# Altium integrated library V2COM_2018.IntLib: 302 symbols (part 1 of 2)
Pins are listed as number, name and electrical type; pins without a type are passive.

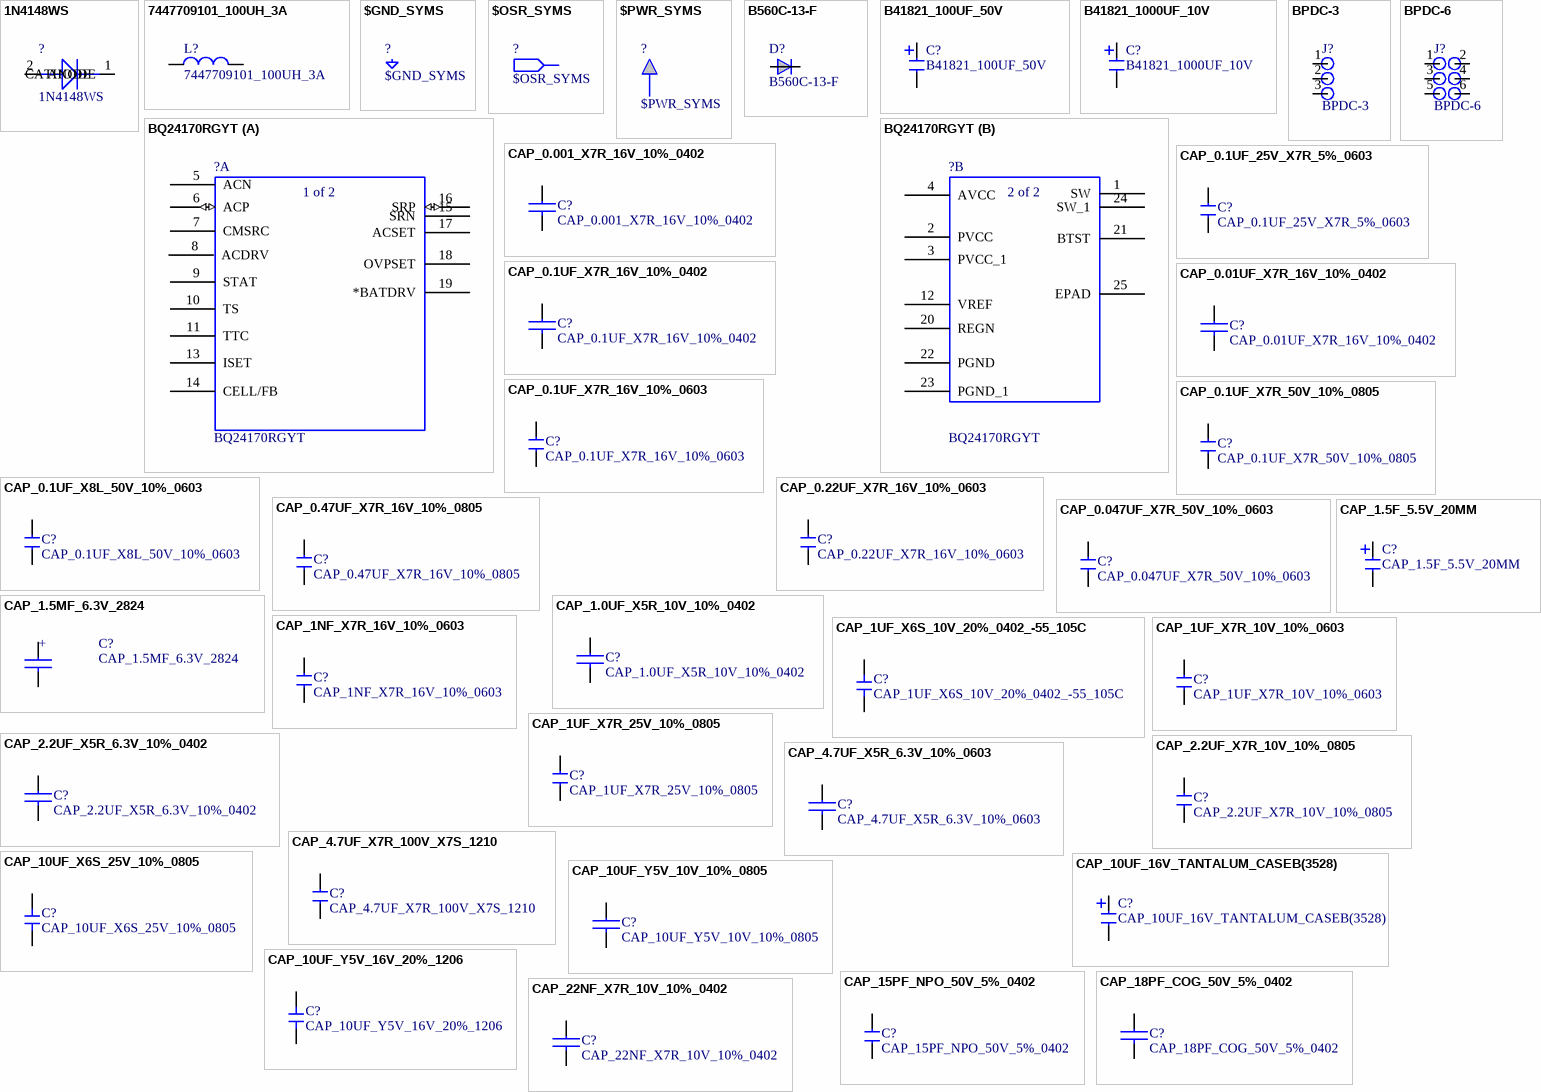
[diagram p0: symbols 1N4148WS to CAP_22NF_X7R_10V_10%_0402]

## 1N4148WS
designator ?
PKG: SOD-323 Flat Lead; MAN: Fairchild; Geometry.Height: 1.35 mm; DESC: Small Signal Diodes; VALOR: 1N4148WS; PN: 1N4148WS
footprint 1N4148WS
pins: 1 CATHODE, 2 ANODE

## 7447709101_100UH_3A
designator L?
DESC: Shielded Power Inductor; VALOR: 100uH, 3A; PKG: SMD; MAN: WURTH Eletronik; Geometry.Height: 10.0mm; PN: 7447709101
footprint 7447709101
pins: 1, 2

## $GND_SYMS
designator ?
footprint PCBNULL

## $OSR_SYMS
designator ?
footprint PCBNULL
5 alternate drawings of the same symbol

## $PWR_SYMS
designator ?
footprint PCBNULL

## B560C-13-F
designator D?
DESC: Schottky Rectifier 5.0 A, 60 V; VALOR: 5A 60V; PKG: DO214-AB; PN: B560C-13-F, STPS5L60S, CDBC560-G; MAN: Diodes Inc, STMicro, Comchip, Micro Comercial; Geometry.Height: 2.65mm
footprint DO-214AB(SMC)
pins: 1, 2

## B41821_100UF_50V
designator C?
DESC: CAP. ELET. RADIAL 100uF 50V; VALOR: 100uF,50V; PKG: PTH; PN: B41821A6107M000; MAN: EPCOS; Geometry.Height: 11.5mm
footprint B41821A6107M000
pins: 1, 2

## B41821_1000UF_10V
designator C?
DESC: CAP. ELET. RADIAL 1000uF 10V; VALOR: 1000uF, 10V; PKG: PTH; PN: B41821A3108M; MAN: EPCOS; Geometry.Height: 20mm
footprint B41821A3108M
pins: 1, 2

## BPDC-3
designator J?
PKG: PTH; MAN: METALTEX; Geometry.Height: 8.54 mm; DESC: BARRA DE PINOS 180 GR FILA DUPLA  3 VIAS (6 PINOS); VALOR: BPDC-6; PN: BPDC-6
footprint PCBNULL
pins: 1, 2, 3

## BPDC-6
designator J?
PKG: PTH; MAN: METALTEX; Geometry.Height: 8.54 mm; DESC: BARRA DE PINOS 180 GR FILA DUPLA  3 VIAS (6 PINOS); VALOR: BPDC-6; PN: BPDC-6
footprint BPDC-6
pins: 1, 2, 3, 4, 5, 6

## BQ24170RGYT
designator ?
MAN: Texas Instruments; PN: BQ24170RGYT
footprint RGY24_2P05X3P1
part A pins: 5 ACN, 6 ACP (io), 7 CMSRC, 8 ACDRV, 9 STAT, 10 TS, 11 TTC, 13 ISET, 14 CELL/FB, 15 SRN, 16 SRP (io), 17 ACSET, 18 OVPSET, 19 *BATDRV
part B pins: 1 SW (power), 2 PVCC (power), 3 PVCC_1 (power), 4 AVCC (power), 12 VREF (power), 20 REGN (power), 21 BTST (power), 22 PGND (power), 23 PGND_1 (power), 24 SW_1 (power), 25 EPAD (power)
part A text: 1 of 2
part B text: 2 of 2

## CAP_0.001_X7R_16V_10%_0402
designator C?
PKG: 0402; VALOR: 1nF, 16V; PN: CC0402KRX7R7BB102; MAN: YAGEO; Geometry.Height: 0.3 mm; DESC: CAP CER 1nF 16V 10% X7R 0402
footprint 0402
pins: 1, 2

## CAP_0.1UF_25V_X7R_5%_0603
designator C?
MAN: AVX; Geometry.Height: 1.0mm; VALOR: 0.1UF,25V; PN: 06033C104JAT2A; PKG: 0603; DESC: CAP CER 0.1UF 25V X7R 0603
footprint 0603
pins: 1, 2

## CAP_0.1UF_X7R_16V_10%_0402
designator C?
PKG: 0402; VALOR: 0.1uF, 16V; PN: C0402C104K4RACT; MAN: KEMET; Geometry.Height: 0.5 mm; DESC: CAP CER 0.1uF 16V 10% X7R 0402
footprint 0402
pins: 1, 2

## CAP_0.01UF_X7R_16V_10%_0402
designator C?
PKG: 0402; VALOR: 0.01uf,16V; PN: ECJ-0YB1C103K; MAN: Panasonic; Geometry.Height: 0.5 mm; DESC: CAP CER 0.01uF 16V 10% 0402
footprint 0402
pins: 1, 2

## CAP_0.1UF_X7R_16V_10%_0603
designator C?
PKG: 0603; Geometry.Height: 0.3 mm; PN: GRM188R71C104KA01D; MAN: MURATA; DESC: CAP CER 100nF 16V 10% X7R 0603; VALOR: 100nF, 16V
footprint 0603
pins: 1, 2
3 alternate drawings of the same symbol

## CAP_0.1UF_X7R_50V_10%_0805
designator C?
VALOR: 0.1uF,50V; PN: 08055C104KAT2A, C0805C104K5RAC7210; PKG: 0805; MAN: AVX, KEMET; Geometry.Height: 0.94mm; DESC: CAP CER 0.1UF 50V X7R 0805
footprint CAP_0805_IPC
pins: 1, 2

## CAP_0.1UF_X8L_50V_10%_0603
designator C?
DESC: CAP CER 0.1UF 50V X8L 0603; Geometry.Height: 0.9mm; MAN: MURATA; PKG: 0603; PN: GCM188L81H104KA57D; VALOR: 0.1uF,50V
footprint CAP0603
pins: 1, 2

## CAP_0.22UF_X7R_16V_10%_0603
designator C?
PKG: 0603; DESC: CAP CER 0.22UF 16V 10% X7R 0603; Geometry.Height: 0.3 mm; MAN: SAMSUNG; PN: CL10B224KO8NNNC; VALOR: 220nF 16V
footprint 0603
pins: 1, 2
3 alternate drawings of the same symbol

## CAP_0.47UF_X7R_16V_10%_0805
designator C?
MAN: AVX; SAMSUNG; Geometry.Height: 1.4mm; VALOR: 0.47UF,16V; PN: 0805YC474KAT2A; CL21B474KOFNNNE; PKG: 0805; DESC: CAP CER 0.47UF 16V X7R 0805
footprint 0805
pins: 1, 2

## CAP_0.047UF_X7R_50V_10%_0603
designator C?
DESC: CAP CER 0.047UF 50V X7R 0603; Geometry.Height: 0.9mm; MAN: MURATA; PKG: 0603; PN: GCM188R71H473KA55D; VALOR: 0.047uF,50V
footprint CAP0603
pins: 1, 2

## CAP_1.0UF_X5R_10V_10%_0402
designator C?
PKG: 0402; VALOR: 1uF,10V; PN: 0402ZD105KAT2A; MAN: AVX; Geometry.Height: 0.56 mm; DESC: CAP CER 1uF 10V 10% X5R 0402
footprint 0402
pins: 1, 2

## CAP_1.5F_5.5V_20MM
designator C?
VALOR: 1.5F, 5.5V; DESC: CAP 1.5F -20% +80% 5.5V T/H; Geometry.Height: 6.50mm; MAN: Eaton Bussmann; ORIGEM: GTSILVERED03; PKG: RADIAL, CAN; PN: KR-5R5H155-R
footprint CAPPRD2000W100D1900H680P
pins: 1 (power), 2

## CAP_1.5MF_6.3V_2824
designator C?
Geometry.Height: 2.00 mm; MAN: AVX; ORIGEM: NG2 ed04r1; PKG: 2824; PN: F720J158MMC; TemperatureRange: [-55;125]ºC; VALOR: 1.5mF 6.3V; DESC: CAP_1.5mF_6.3V_2824
footprint F72-M
pins: 1 P, 2 N
text: +

## CAP_1NF_X7R_16V_10%_0603
designator C?
PKG: 0603; Geometry.Height: 0.9mm; PN: C0603C102K4RACTU; 0603YC102KAT2A; GRM188R71C102KA01; MAN: KEMET; AVX; MURATA; VALOR: 1NF,16V; DESC: CAP_1NF_X7R_16V_10%_0603
footprint 0603
pins: 1, 2

## CAP_1UF_X6S_10V_20%_0402_-55_105C
designator C?
VALOR: 1uF, 10V; DESC: CAP_CER_1UF_10V_X6S_0402_-55_105C; Geometry.Height: 0.33 mm; MAN: TDK; PN: CGB2A1X6S1A105M033BC; ORIGEM: SFI ED03r1; PKG: 0402; TemperatureRange: [-55;105]C; VoltageRange: [-;10]V
footprint CAP0402
pins: 1, 2

## CAP_1UF_X7R_10V_10%_0603
designator C?
PKG: 0603; VALOR: 1uF, 10V; PN: GRM188R71A105KA61D; MAN: MURATA; Geometry.Height: 0.3 mm; DESC: CAP CER 1uF 10V 10% X7R 0603
footprint 0603
pins: 1, 2
3 alternate drawings of the same symbol

## CAP_1UF_X7R_25V_10%_0805
designator C?
VALOR: 1uF,25V; PN: C0805C105K3RACTU; PKG: 0805; MAN: KEMET; Geometry.Height: 1.4mm; DESC: CAP CER 0.1UF 25V X7R 0805
footprint CAP_0805_IPC
footprint CAP0805
pins: 1, 2

## CAP_2.2UF_X5R_6.3V_10%_0402
designator C?
PKG: 0402; VALOR: 2.2uF, 6.3V; PN: C1005X5R0J225K; MAN: TDK; Geometry.Height: 0.5 mm; DESC: CAP CER 2.2uF 6.3V 10% X5R 0402
footprint 0402
pins: 1, 2

## CAP_2.2UF_X7R_10V_10%_0805
designator C?
DESC: CAP CER 2.2UF 10V X7R 0805; Geometry.Height: 1.4mm; MAN: Kemet; PKG: 0805; PN: C0805C225K8RACTU; VALOR: 330pF,50V
footprint CAP0805
pins: 1, 2

## CAP_4.7UF_X5R_6.3V_10%_0603
designator C?
PKG: 0603; VALOR: 4.7uF, 6.3V; PN: GRM188R60J475ME19D; MAN: Murata; Geometry.Height: 0.8 mm; DESC: CAP CER 4.7UF 6.3V X5R 0603
footprint 0603
pins: 1, 2

## CAP_4.7UF_X7R_100V_X7S_1210
designator C?
DESC: CAP CER 4.7UF 100V X7S 1210; PKG: 1210; PN: C3225X7S2A475M200AB; VALOR: 4.7UF,100V; Geometry.Height: 2.2mm; MAN: TDK
footprint 1210
pins: 1, 2

## CAP_10UF_16V_TANTALUM_CASEB(3528)
designator C?
MAN: SAMSUNG, Vishay; PN: TCSCS1C106KBAR, 293D106X9016B2TE3; DESC: Capacitor CASE B (3528) Tantalum 10uF +/-10% 16V; VALOR: 10uF 16V; PKG: CASE B (3528)
footprint 3528
pins: 1, 2

## CAP_10UF_X6S_25V_10%_0805
designator C?
DESC: CAP CER 10UF 25V X6S 0805; PKG: 0805; VALOR: 10uF,25V; Geometry.Height: 1.45mm; MAN: SAMSUNG; PN: CL21X106KAYNNNE
footprint CAP0805
pins: 1, 2

## CAP_10UF_Y5V_10V_10%_0805
designator C?
PKG: 0805; VALOR: 10uF,10V; PN: C2012Y5V1A106Z; MAN: TDK; Geometry.Height: 1.25 mm; DESC: CAP CER 10UF 10V Y5V 0805
footprint 0805
pins: 1, 2

## CAP_10UF_Y5V_16V_20%_1206
designator C?
VALOR: 10UF,16V; PN: CC1206ZKY5V7BB106; PKG: 1206; MAN: Yageo; Geometry.Height: 1.25mm; DESC: CAP CER 10UF 16V Y5V 1206
footprint 1206
pins: 1, 2

## CAP_15PF_NPO_50V_5%_0402
designator C?
PKG: 0402; VALOR: 15pF, 5%; PN: C1005C0G1H150J; VJ0603A150JXACW1BC; C0603C150J5GACTU; GRM1885C1H150JA01J; MAN: TDK; VISHAY; KEMET; MURATA; Geometry.Height: 0.55 mm; DESC: CAP CER 15pF 50V 0402 5% NPO 0402
footprint 0402
pins: 1, 2

## CAP_18PF_COG_50V_5%_0402
designator C?
PKG: 0402; VALOR: 18pF, 50V; PN: C1005C0G1H180J; MAN: TDK; Geometry.Height: 0.5 mm; DESC: CAP CER 18pF 50V 5% COG 0402
footprint 0402
pins: 1, 2

## CAP_22NF_X7R_10V_10%_0402
designator C?
PKG: 0402; VALOR: 22nF, 10V; PN: LMK105B7223KV-F; MAN: Taiyo Yuden; Geometry.Height: 0.5 mm; DESC: CAP CER 22nF 10% 10V X7R 0402
footprint 0402
pins: 1, 2

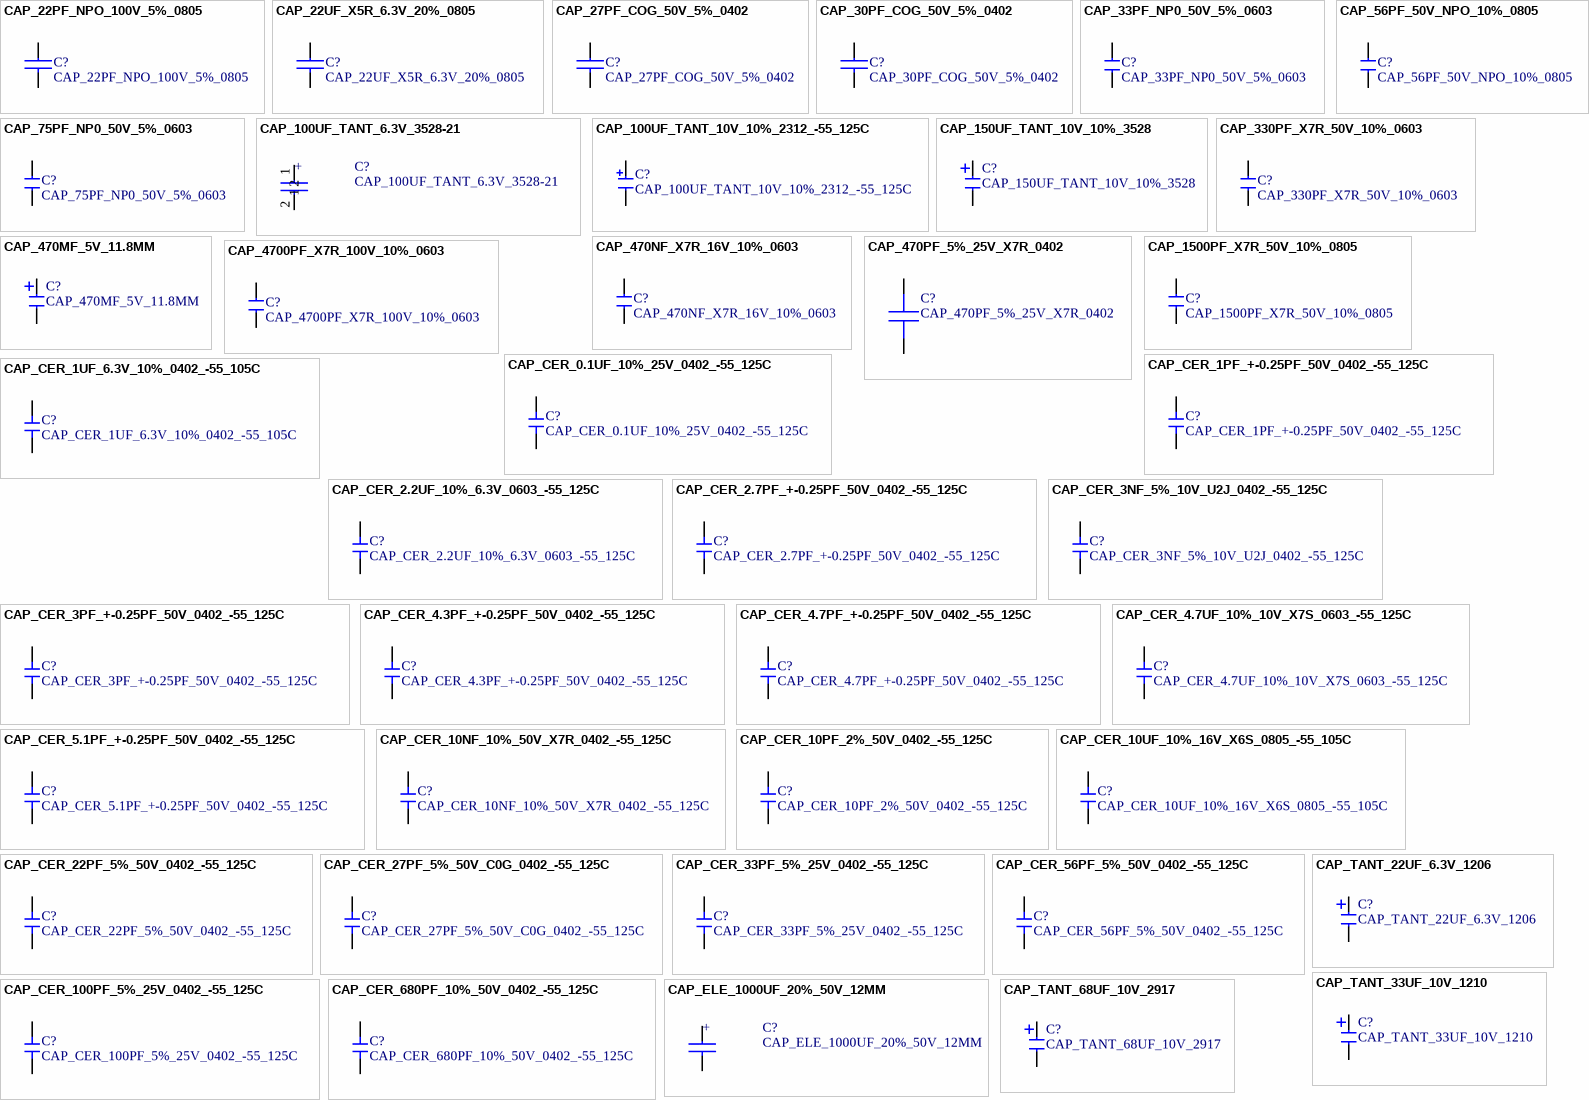
[diagram p1: symbols CAP_22PF_NPO_100V_5%_0805 to CAP_TANT_68UF_10V_2917]

## CAP_22PF_NPO_100V_5%_0805
designator C?
PKG: 0805; VALOR: 22pF, 100V; PN: 08051A220JAT2A; MAN: AVX; Geometry.Height: 0.94 mm; DESC: CAP CER 22PF NPO 100V 5% 0805
footprint 0805
pins: 1, 2

## CAP_22UF_X5R_6.3V_20%_0805
designator C?
ORIGEM: SmartRamal ed01r1; PKG: 0805; VALOR: 22uF,6.3V; PN: C2012X5R0J226M/1.25; MAN: TDK; Geometry.Height: 1.25; DESC: CAP CER 22UF 6.3V X5R 20% 0805
footprint 0805
pins: 1, 2

## CAP_27PF_COG_50V_5%_0402
designator C?
PKG: 0402; VALOR: 27pF, 50V; PN: GRM1555C1H270JZ01D; MAN: MURATA; Geometry.Height: 0.5 mm; DESC: CAP CER 27pF 5% 50V  COG 0402
footprint 0402
pins: 1, 2

## CAP_30PF_COG_50V_5%_0402
designator C?
PKG: 0402; VALOR: 30pF, 50V; PN: C1005C0G1H300J; MAN: TDK; Geometry.Height: 0.5 mm; DESC: CAP CER 30pF 5% 50V COG 0402
footprint 0402
pins: 1, 2

## CAP_33PF_NP0_50V_5%_0603
designator C?
VALOR: 33PF,50V; PN: C0603C330J5GACTU; CL10C330JB8NNNC; PKG: 0603; MAN: KEMET; SAMSUNG; Geometry.Height: 4 mm; DESC: CAP_33PF_NP0_50V_5%_0603
footprint 0603
pins: 1, 2

## CAP_56PF_50V_NPO_10%_0805
designator C?
MAN: YAGEO; Geometry.Height: 0.6mm; VALOR: 56PF,50V; PN: CC0805JRNPO9BN560; PKG: 0805; DESC: CAP CER 56PF 50V NPO 0805
footprint 0805
pins: 1, 2

## CAP_75PF_NP0_50V_5%_0603
designator C?
DESC: CAP CER 75PF 50V NP0 0603; Geometry.Height: 0.90mm; MAN: SAMSUNG; PKG: 0603; PN: CL10C750JB8NNNC; VALOR: 75PF,50V
footprint CAP_0603_IPC
footprint CAP0603
pins: 1, 2

## CAP_100UF_TANT_6.3V_3528-21
designator C?
DESC: CAP TANT 100UF 20% 16V 2312; Geometry.Height: 2.7 mm; MAN: AVX; PKG: 6032-28; PN: F931C107MCCAJ6; VALOR: 100uF, 16V
footprint 6032
pins: 1, 2
text: +

## CAP_100UF_TANT_10V_10%_2312_-55_125C
designator C?
Geometry.Height: 2.8mm; MAN: AVX; ORIGEM: SFI ED03r1; PKG: 2312; PN: TPSC107K010R0150; TemperatureRange: [-55;125]C; VALOR: 100UF,10V; VoltageRange: [-;10]V; DESC: CAP_100UF_TANT_10V_10%_2312_-55_125C
footprint CAP2312_P
pins: 1, 2

## CAP_150UF_TANT_10V_10%_3528
designator C?
VALOR: 150UF, 10V LOW ESR; PN: TLJB157M010R0500; PKG: 3528; MAN: AVX; Geometry.Height: 2.11mm; DESC: CAP_150UF_TANT(LOW ESR)_10V_20%_3528
footprint 3528
pins: 1, 2

## CAP_330PF_X7R_50V_10%_0603
designator C?
DESC: CAP CER 330PF 50V X7R 0603; Geometry.Height: 0.87mm; MAN: Kemet; PKG: 0603; PN: C0603S331K5RAC7867; VALOR: 330pF,50V
footprint CAP0603
pins: 1, 2

## CAP_470MF_5V_11.8MM
designator C?
VALOR: 470MF, 5V; DESC: CAP 470MF -20% +80% 5V T/H; Geometry.Height: 14.50mm; MAN: Eaton Bussmann; ORIGEM: GTSILVERED03; PKG: RADIAL, CAN; PN: PB-5R0V474-R
footprint CAP_SUPERCAP_11.8MM
pins: 1 (power), 2

## CAP_470NF_X7R_16V_10%_0603
designator C?
PKG: 0603; PN: GRM188R71C474KA88D; MAN: Murata; DESC: CAP CER 470nF 16V 10% X7R 0603; VALOR: 470nF, 16V
footprint 0603
pins: 1, 2
3 alternate drawings of the same symbol

## CAP_470PF_5%_25V_X7R_0402
designator C?
PKG: 0402; DESC: CAP CER 470pF 10% 25V X7R 0402; VALOR: 470pF, 25V; PN: ECJ-0EB1E471K, GRM155R71H471KA01D; MAN: Panasonic, Murata; Geometry.Height: 0.5 mm
footprint 0402
pins: 1, 2

## CAP_1500PF_X7R_50V_10%_0805
designator C?
MAN: YAGEO; Geometry.Height: 0.6mm; VALOR: 1,5NF,50V; PN: CC0805KRX7R9BB152; PKG: 0805; DESC: CAP CER 1500PF 50V X7R 0805
footprint 0805
pins: 1, 2

## CAP_4700PF_X7R_100V_10%_0603
designator C?
DESC: CAP CER 4700PF 100V X7R 0603; Geometry.Height: 0.9mm; MAN: MURATA; PKG: 0603; PN: GCM188R72A472KA37D; VALOR: 4700pF,100V
footprint CAP0603
pins: 1, 2

## CAP_CER_0.1UF_10%_25V_0402_-55_125C
designator C?
Geometry.Height: 0.5 mm; MAN: TDK Corporation; ORIGEM: SFI ED03r1; PKG: 0402; PN: CGA2B3X7R1E104K050BB; TemperatureRange: [-55;125]C; VALOR: 0.1uF; VoltageRange: [-;25]V; DESC: CAP_CER_0.1UF_10%_25V_0402_-55_125C
footprint CAP0402
pins: 1, 2

## CAP_CER_1PF_+-0.25PF_50V_0402_-55_125C
designator C?
DESC: CAP_CER_1pF_+-0.25pF_50V_C0G/NP0_0402_-55_125C; Geometry.Height: 0.55 mm; MAN: Murata; ORIGEM: SFI ED03r1; PKG: 0402; PN: GJM1555C1H1R0CB01D; TemperatureRange: [-55,125]C; VALOR: 1pF, 50V; VoltageRange: [-,50V]
footprint CAP0402
pins: 1, 2

## CAP_CER_1UF_6.3V_10%_0402_-55_105C
designator C?
DESC: CAP_CER_1UF_6.3V_X6S_0402_-55_105C; Geometry.Height: 0.55 mm; MAN: Murata Electronics North America; ORIGEM: SFI ED03r1; PKG: 0402; PN: GRT155C80J105KE01D; TemperatureRange: [-55;105]C; VALOR: 1uF, 6.3V; VoltageRange: [-;6.3]V
footprint CAP0402
pins: 1, 2

## CAP_CER_2.2UF_10%_6.3V_0603_-55_125C
designator C?
DESC: CAP_CER_2.2UF_10%_6.3V_X7S_0603_-55_125C; Geometry.Height: 0.9 mm; MAN: TDK Corporation; ORIGEM: SFI ED03r1; PKG: 0603; PN: C1608X7S0J225K080AB; TemperatureRange: [-55,125]C; VALOR: 2.2uF, 6.3V; VoltageRange: [-,6.3V]
footprint CAP0603
pins: 1, 2

## CAP_CER_2.7PF_+-0.25PF_50V_0402_-55_125C
designator C?
DESC: CAP_CER_2.7pF_+-0.25pF_50V_C0G/NP0_0402_-55_125C; Geometry.Height: 0.55 mm; MAN: Samsung Electro-Mechanics; ORIGEM: SFI ED03r1; PKG: 0402; PN: CL05C2R7CB5NNNC; TemperatureRange: [-55,125]C; VALOR: 2.7pF, 50V; VoltageRange: [-,50V]
footprint CAP0402
pins: 1, 2

## CAP_CER_3NF_5%_10V_U2J_0402_-55_125C
designator C?
Geometry.Height: 0.55mm; MAN: MURATA; PKG: 0402; PN: GRM1557U1A302JA01D; VALOR: 3NF,10V; ORIGEM: SFI ED03r1; TemperatureRange: [-55;125]C; VoltageRange: [-;10]V; DESC: CAP_CER_3NF_5%_10V_U2J_0402_-55_125C
footprint CAP0402
pins: 1, 2

## CAP_CER_3PF_+-0.25PF_50V_0402_-55_125C
designator C?
DESC: CAP_CER_3pF_+-0.25pF_50V_C0G/NP0_0402_-55_125C; Geometry.Height: 0.55 mm; MAN: Samsung Electro-Mechanics; ORIGEM: SFI ED03r1; PKG: 0402; PN: CL05C030CB5NNNC; TemperatureRange: [-55,125]C; VALOR: 3pF, 50V; VoltageRange: [-,50V]
footprint CAP0402
pins: 1, 2

## CAP_CER_4.3PF_+-0.25PF_50V_0402_-55_125C
designator C?
DESC: CAP_CER_4.3pF_+-0.25pF_50V_C0G/NP0_0402_-55_125C; Geometry.Height: 0.55 mm; MAN: Samsung Electro-Mechanics; ORIGEM: SFI ED03r1; PKG: 0402; PN: CL05C4R3CB5NNNC; TemperatureRange: [-55,125]C; VALOR: 4.3pF, 50V; VoltageRange: [-,50V]
footprint CAP0402
pins: 1, 2

## CAP_CER_4.7PF_+-0.25PF_50V_0402_-55_125C
designator C?
DESC: CAP_CER_4.7pF_+-0.25pF_50V_C0G/NP0_0402_-55_125C; Geometry.Height: 0.55 mm; MAN: Samsung Electro-Mechanics; ORIGEM: SFI ED03r1; PKG: 0402; PN: CL05C4R7CB5NNNC; TemperatureRange: [-55,125]C; VALOR: 4.7pF, 50V; VoltageRange: [-,50V]
footprint CAP0402
pins: 1, 2

## CAP_CER_4.7UF_10%_10V_X7S_0603_-55_125C
designator C?
Geometry.Height: 0.9 mm; MAN: TDK Corporation; ORIGEM: SFI ED03r1; PKG: 0603; PN: C1608X7S1A475K080AC; TemperatureRange: [-55,125]C; VALOR: 4.7uF, 10V; VoltageRange: [-,10V]; DESC: CAP_CER_4.7UF_10%_10V_X7S_0603_-55_125C
footprint CAP0603
pins: 1, 2

## CAP_CER_5.1PF_+-0.25PF_50V_0402_-55_125C
designator C?
DESC: CAP_CER_5.1pF_+-0.25pF_50V_C0G/NP0_0402_-55_125C; Geometry.Height: 0.55 mm; MAN: Murata; ORIGEM: SFI ED03r1; PKG: 0402; PN: GRM1555C1H5R1CA01D; TemperatureRange: [-55,125]C; VALOR: 5.1pF, 50V; VoltageRange: [-,50V]
footprint CAP0402
pins: 1, 2

## CAP_CER_10NF_10%_50V_X7R_0402_-55_125C
designator C?
Geometry.Height: 0.60 mm; MAN: TDK Corporation; ORIGEM: SFI ED03r1; PKG: 0402; PN: C1005X7R1H103K050BE; TemperatureRange: [-55;125]C; VALOR: 10nF, 50V; VoltageRange: [-,50]V; DESC: CAP_CER_10NF_10%_50V_X7R_0402_-55_125C
footprint CAP0402
pins: 1, 2

## CAP_CER_10PF_2%_50V_0402_-55_125C
designator C?
Geometry.Height: 0.55mm; MAN: Murata Electronics North America; ORIGEM: SFI ED03r1; PKG: 0402; PN: GRM1555C1H100GA01D; TemperatureRange: [-55;125]C; VALOR: 10pF, 50V; VoltageRange: [-;50]V; DESC: CAP_CER_10pF_2%_50V_0402_-55_125C
footprint CAP0402
pins: 1, 2

## CAP_CER_10UF_10%_16V_X6S_0805_-55_105C
designator C?
Geometry.Height: 1.45 mm; MAN: TDK Corporation; ORIGEM: SFI ED03r1; PKG: 0805; PN: C2012X6S1C106K125AC; TemperatureRange: [-55;105]C; VALOR: 10uF, 16V; VoltageRange: [-,16]V; DESC: CAP_CER_10UF_10%_16V_X6S_0805_-55_105C
footprint CAP0805
pins: 1, 2

## CAP_CER_22PF_5%_50V_0402_-55_125C
designator C?
Geometry.Height: 0.55mm; MAN: Murata Electronics North America; ORIGEM: SFI ED03r1; PKG: 0402; PN: GCM1555C1H220JA16D; TemperatureRange: [-55;125]C; VALOR: 22pF, 50V; VoltageRange: [-;50]V; DESC: CAP_CER_22pF_5%_50V_0402_-55_125C
footprint CAP0402
pins: 1, 2

## CAP_CER_27PF_5%_50V_C0G_0402_-55_125C
designator C?
DESC: CAP_CER_27pF_5%_50V_C0G/NP0_0402_-55_125C; Geometry.Height: 0.55mm; MAN: MURATA; ORIGEM: SFI ED03r1; PKG: 0402; PN: C0402C270J5GACTU; TemperatureRange: [-55;125]C; VALOR: 27PF,50V; VoltageRange: [-;50]V
footprint CAP0402
pins: 1, 2

## CAP_CER_33PF_5%_25V_0402_-55_125C
designator C?
DESC: CAP_CER_33pF_5%_25V_C0G/NP0_0402_-55_125C; Geometry.Height: 0.55 mm; MAN: Murata Electronics North America; ORIGEM: SFI ED03r1; PKG: 0402; PN: GRM1555C1E330JA01D; TemperatureRange: [-55,125]C; VALOR: 33pF, 25V; VoltageRange: [-,25V]
footprint CAP0402
pins: 1, 2

## CAP_CER_56PF_5%_50V_0402_-55_125C
designator C?
DESC: CAP_CER_56pF_5%_50V_C0G/NP0_0402_-55_125C; Geometry.Height: 0.55 mm; MAN: Yageo; ORIGEM: SFI ED03r1; PKG: 0402; PN: CC0402JRNPO9BN560; TemperatureRange: [-55,125]C; VALOR: 56pF, 50V; VoltageRange: [-,50V]
footprint CAP0402
pins: 1, 2

## CAP_CER_100PF_5%_25V_0402_-55_125C
designator C?
DESC: CAP_CER_100pF_5%_25V_C0G/NP0_0402_-55_125C; Geometry.Height: 0.55 mm; MAN: KEMET; ORIGEM: SFI ED03r1; PKG: 0402; PN: C0402C101J3GACTU; TemperatureRange: [-55,125]C; VALOR: 100pF, 25V; VoltageRange: [-,25V]
footprint CAP0402
pins: 1, 2

## CAP_CER_680PF_10%_50V_0402_-55_125C
designator C?
DESC: CAP_CER_680pF_10%_50V_X7R_0402_-55_125C; Geometry.Height: 0.55mm; MAN: Samsung Electro-Mechanics; ORIGEM: SFI ED03r1; PKG: 0402; PN: CL05B681KB5NNNC; TemperatureRange: [-55;125]C; VALOR: 680pF; 50V; VoltageRange: [-;50]V
footprint CAP0402
pins: 1, 2

## CAP_ELE_1000UF_20%_50V_12MM
designator C?
DESC: CAP ALUM 1000UF 20% 50V RADIAL; Geometry.Height: 25mm; MAN: NICHICON; ORIGEM: SFI ED03r1; PKG: PTH RADIAL; PN: UVY1H102MHD; VALOR: 1000uF,50V; TemperatureRange: [-55;105]ºC; VoltageRange: [-;50]V
footprint CAP_H_12MMA
pins: 1, 2
text: +

## CAP_TANT_22UF_6.3V_1206
designator C?
Geometry.Height: 1.8mm; MAN: AVX; PN: TAJA226K006RNJ; PKG: 1206; DESC: CAP TANT 22UF 6.3V 10% 1206; VALOR: 22uF,6.3V
footprint CAP_POL_1206_IPC
pins: 1, 2

## CAP_TANT_33UF_10V_1210
designator C?
Geometry.Height: 2.1mm; MAN: AVX; PN: TPSB336K010T0250; PKG: 1210; DESC: CAP TANT 33UF 10V 10% 1210; VALOR: 33uF,10V
footprint TCJB
footprint TCJB-L
pins: 1, 2

## CAP_TANT_68UF_10V_2917
designator C?
MAN: PANASONIC; Geometry.Height: 2mm; VALOR: 68uF, 10V; PN: 10TPE68M; PKG: 2917; DESC: CAP TANT POLY 68UF 10V 2917
footprint 7343
pins: 1, 2

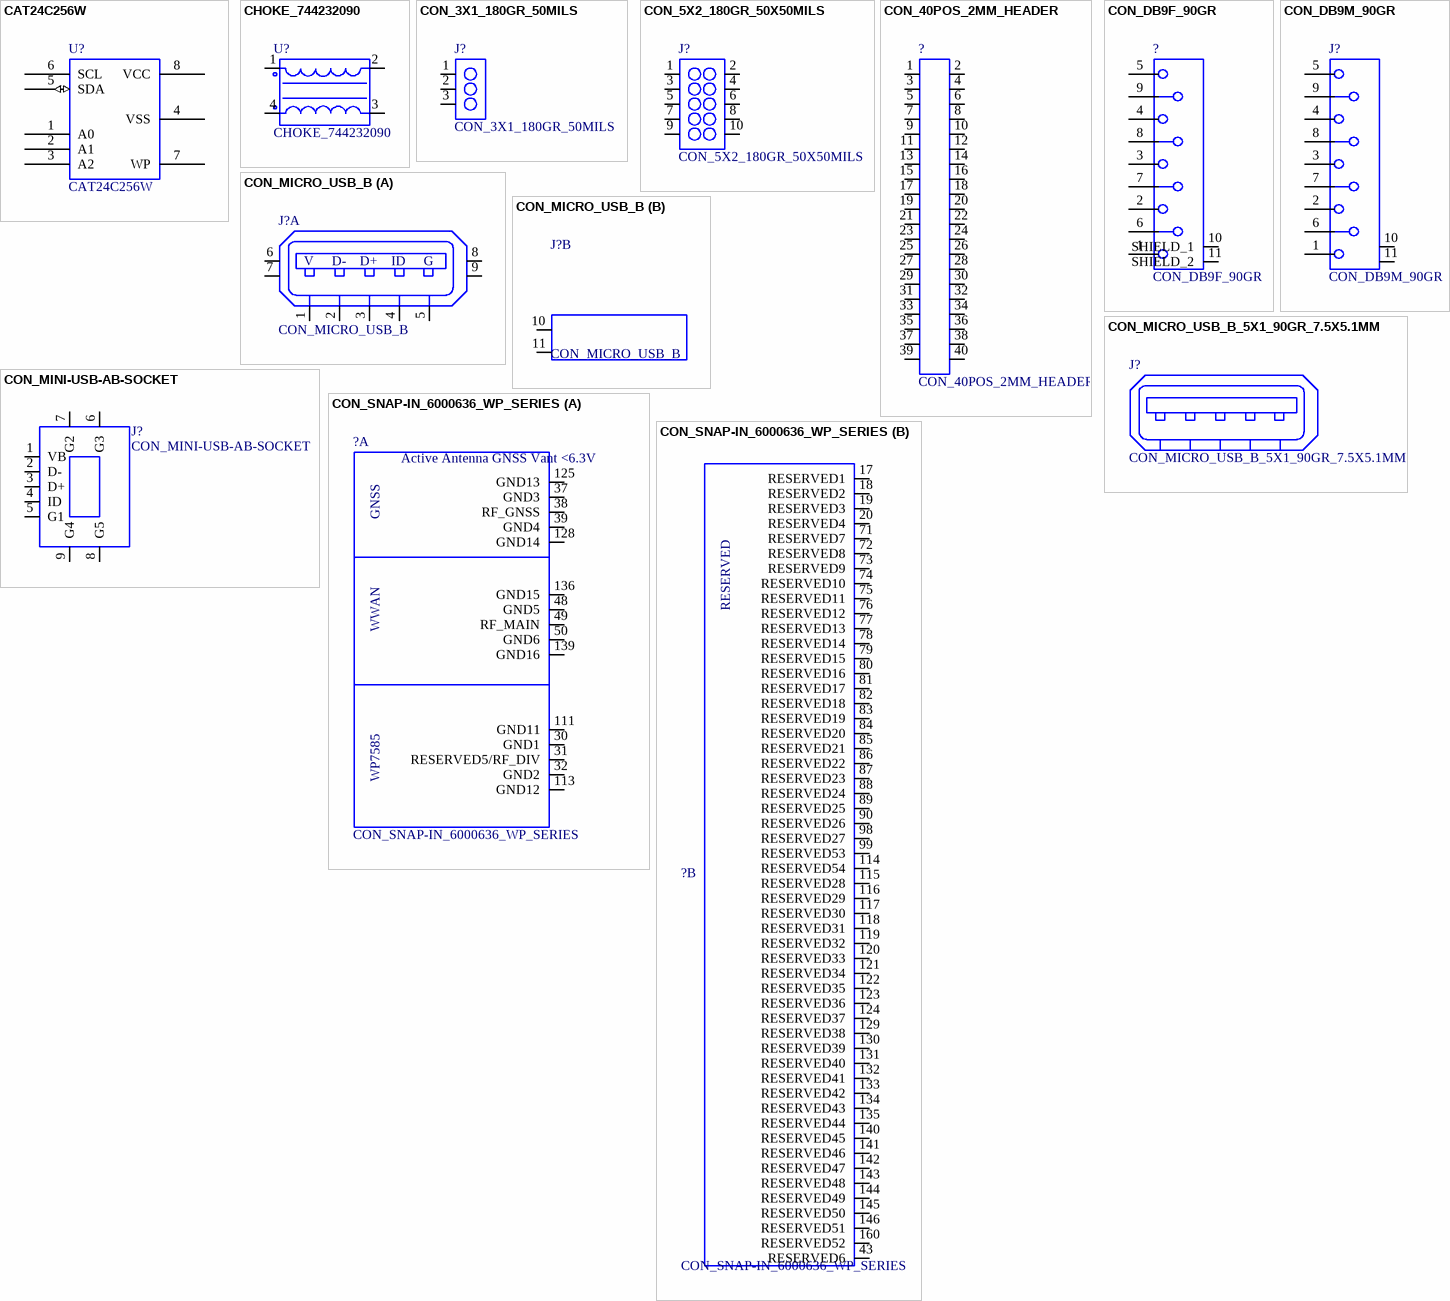
[diagram p2: symbols CAT24C256W to CON_SNAP-IN_6000636_WP_SERIES]

## CAT24C256W
designator U?
PKG: SOIC-8; VALOR: CAT24C256WI-G; MAN: ON SEMI; Geometry.Height: 2.0 mm; DESC: 256 kb I2C CMOS Serial; PN: CAT24C256WI-G
footprint SOIC_8
pins: 1 A0, 2 A1, 3 A2, 4 VSS (power), 5 SDA (io), 6 SCL, 7 WP, 8 VCC (power)

## CHOKE_744232090
designator U?
PKG: SMD; MAN: WURTH; Geometry.Height: 1.8mm; DESC: Common Mode Line Filter; VALOR: 744232090; PN: 744232090
footprint 744232090
pins: 1, 2, 3, 4

## CON_3X1_180GR_50MILS
designator J?
DESC: FILA DUPLA 03 VIAS 180 GRAUS 50mils 4mm; PN: M52-040023V0345; TMS-103-01-G-S; MAN: HARWIN Inc; SAMTEC; PKG: PTH; Geometry.Height: 6.32mm; ORIGEM: SFI ED03r1; VALOR: M52-040023V0345; TMS-103-01-G-S
footprint TMS-103-01-G-S
pins: 1, 2, 3

## CON_5X2_180GR_50X50MILS
designator J?
DESC: FILA DUPLA 05 VIAS 180 GRAUS 50x50mils 3.81mm; PN: FTSH-105-04-L-D; MAN: SAMTEC; PKG: PTH; Geometry.Height: 6.32mm; ORIGEM: SFI ED03r1; VALOR: FTSH-105-04-L-D
footprint FTSH-105-04-L-D
pins: 1, 2, 3, 4, 5, 6, 7, 8, 9, 10

## CON_40POS_2MM_HEADER
designator ?
DESC: CONN HEADER 40POS 2MM VERT GOLD; MAN: MOLEX INC; ORIGEM: CRC_BRICK_PULSE_COUNTER_ED01r1; PN: 0877584016; VALOR: CON 40POS 2MM; Geometry.Height: 4 mm
footprint CON_40POS_2MM_HEADER
pins: 1, 2, 3, 4, 5, 6, 7, 8, 9, 10, 11, 12, 13, 14, 15, 16, 17, 18, 19, 20, 21, 22, 23, 24, 25, 26, 27, 28, 29, 30, 31, 32, 33, 34, 35, 36, 37, 38, 39, 40

## CON_DB9F_90GR
designator ?
Geometry.Height: 12.55mm; PKG: PTH; VALOR: DBPN1-F09; MAN: Metaltex; DESC: DB9 PCI Fêmea; PN: DBPN1-F09
footprint DBPN1-F09
pins: 1, 2, 3, 4, 5, 6, 7, 8, 9, 10 SHIELD_1, 11 SHIELD_2

## CON_DB9M_90GR
designator J?
Geometry.Height: 1.2mm; PKG: PTH; VALOR: DBPN1-M09; MAN: METALTEX; DESC: CONECTOR DB9M PCI CURTO 90GR; PN: DBPN1-M09
footprint DBPN1-M09
pins: 1, 2, 3, 4, 5, 6, 7, 8, 9, 10, 11

## CON_MICRO_USB_B
designator J?
DESC: CONN micro USB TYPE B; Geometry.Height: 2.5 mm; MAN: WURTH; ORIGEM: SFI ED03r1; PKG: SMD; PN: 629105136821; VALOR: USB MICRO B
footprint PCBNULL
part A pins: 1 VCC (power), 2 D- (io), 3 D+ (io), 4 ID, 5 GND, 6 CHGND1, 7 CHGND2, 8 CHGND3, 9 CHGND4
part B pins: 10 BOARD_GUIDE_1, 11 BOARD_GUIDE_2
part A text: V; G

## CON_MICRO_USB_B_5X1_90GR_7.5X5.1MM
designator J?
DESC: CONN USB MICRO B RECPT SMT 90GR 7.5x5.1mm 2.8mm; Geometry.Height: 2.8mm; MAN: Amphenol FCI; ORIGEM: SFI ED03r1; PKG: SMT; PN: 10118192-0001LF; VALOR: 10118192-0001LF
footprint MICRO_USB_B_10118192-0001LF

## CON_MINI-USB-AB-SOCKET
designator J?
DESC: USB SERIES MINI-AB; Geometry.Height: 3.95 mm; MAN: MOLEX; ORIGEM: SFI ED03r1; PKG: SMD; PN: 56579-0576; TemperatureRange: [-20;85]ºC; VALOR: USB mini AB; CurrentRange: [-;1]A; VoltageRange: [-,30]V
footprint USB-MINI-SMT-NUM
pins: 1 VB, 2 D-, 3 D+, 4 ID, 5 G1, 6 G3, 7 G2, 8 G5, 9 G4

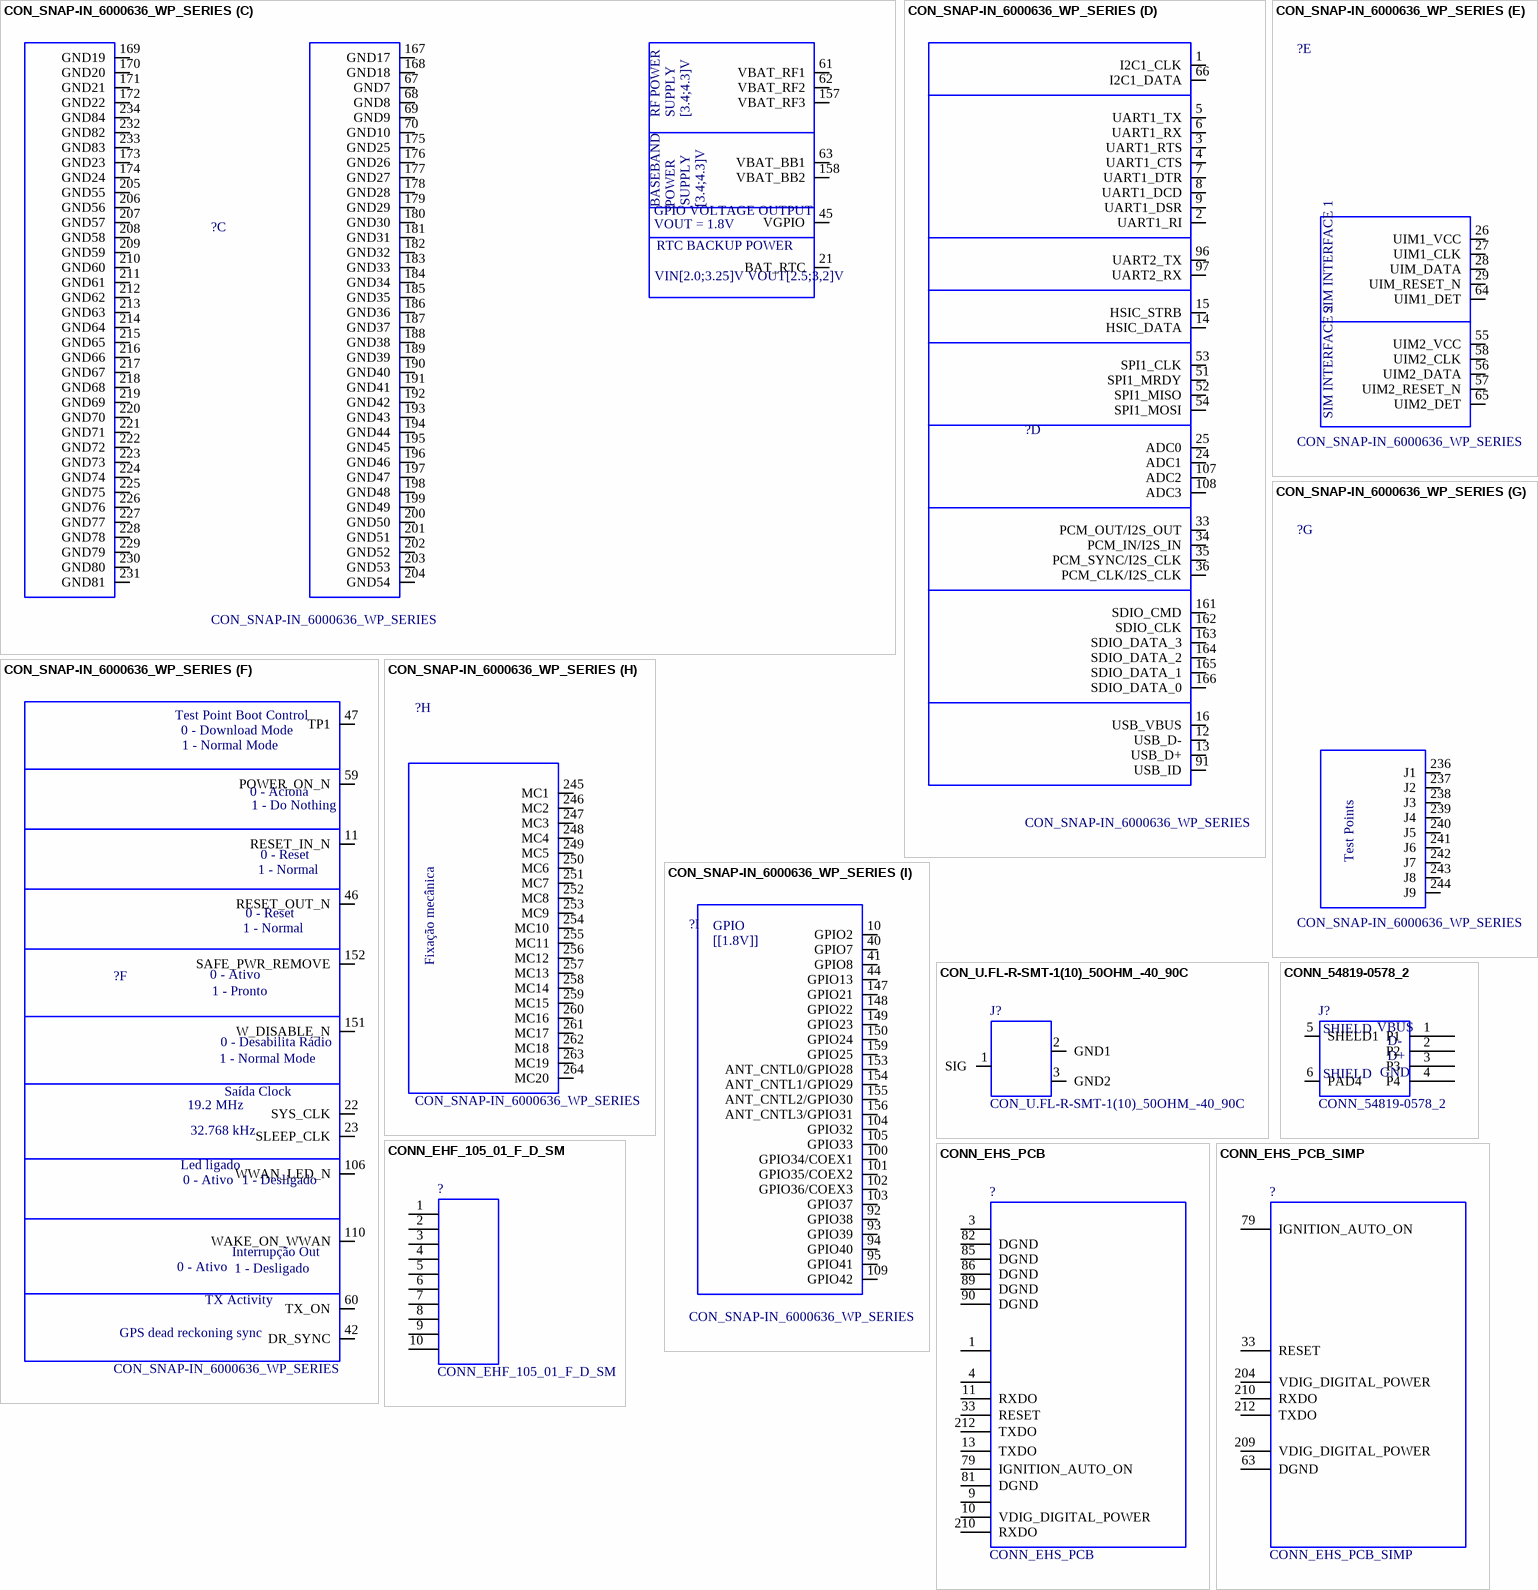
[diagram p3: symbols CON_SNAP-IN_6000636_WP_SERIES to CONN_EHS_PCB_SIMP]

## CON_SNAP-IN_6000636_WP_SERIES
designator ?
DESC: MODEM SIERRA WIRELESS (WP8548, HL8549) SNAP-IN SOCKET; Geometry.Height: 6.9mm; MAN: SIERRA WIRELESS; OBS: Selecionar entre socket e modems; ADICIONAR SNAP-IN COVER 6000637 (WP) ou 6000596 (HL); ORIGEM: NG2 ed04r1; PKG: SMD; PN: 6000636; WP8548; HL8549; HL8549-G; TemperatureRange: [-40;85]ºC; VALOR: 6000636 WP SNAPIN SOCKET; WP8548; HL8549; HL8549-G; VoltageRange: [0,4,2]V
footprint SIERRA_WP8548
part A pins: 30 GND1, 31 RESERVED5/RF_DIV, 32 GND2, 37 GND3, 38 RF_GNSS, 39 GND4, 48 GND5, 49 RF_MAIN, 50 GND6, 111 GND11, 113 GND12, 125 GND13, 128 GND14, 136 GND15, 139 GND16
part B pins: 17 RESERVED1, 18 RESERVED2, 19 RESERVED3, 20 RESERVED4, 43 RESERVED6, 71 RESERVED7, 72 RESERVED8, 73 RESERVED9, 74 RESERVED10, 75 RESERVED11, 76 RESERVED12, 77 RESERVED13, 78 RESERVED14, 79 RESERVED15, 80 RESERVED16, 81 RESERVED17, 82 RESERVED18, 83 RESERVED19, 84 RESERVED20, 85 RESERVED21, 86 RESERVED22, 87 RESERVED23, 88 RESERVED24, 89 RESERVED25, 90 RESERVED26, 98 RESERVED27, 99 RESERVED53, 114 RESERVED54, 115 RESERVED28, 116 RESERVED29, 117 RESERVED30, 118 RESERVED31, 119 RESERVED32, 120 RESERVED33, 121 RESERVED34, 122 RESERVED35, 123 RESERVED36, 124 RESERVED37, 129 RESERVED38, 130 RESERVED39, 131 RESERVED40, 132 RESERVED41, 133 RESERVED42, 134 RESERVED43, 135 RESERVED44, 140 RESERVED45, 141 RESERVED46, 142 RESERVED47, 143 RESERVED48, 144 RESERVED49, 145 RESERVED50, 146 RESERVED51, 160 RESERVED52
part C pins: 21 BAT_RTC, 45 VGPIO, 61 VBAT_RF1, 62 VBAT_RF2, 63 VBAT_BB1, 67 GND7, 68 GND8, 69 GND9, 70 GND10, 157 VBAT_RF3, 158 VBAT_BB2, 167 GND17, 168 GND18, 169 GND19, 170 GND20, 171 GND21, 172 GND22, 173 GND23, 174 GND24, 175 GND25, 176 GND26, 177 GND27, 178 GND28, 179 GND29, 180 GND30, 181 GND31, 182 GND32, 183 GND33, 184 GND34, 185 GND35, 186 GND36, 187 GND37, 188 GND38, 189 GND39, 190 GND40, 191 GND41, 192 GND42, 193 GND43, 194 GND44, 195 GND45, 196 GND46, 197 GND47, 198 GND48, 199 GND49, 200 GND50, 201 GND51, 202 GND52, 203 GND53, 204 GND54, 205 GND55, 206 GND56, 207 GND57, 208 GND58, 209 GND59, 210 GND60, 211 GND61, 212 GND62, 213 GND63, 214 GND64, 215 GND65, 216 GND66, 217 GND67, 218 GND68, 219 GND69, 220 GND70, 221 GND71, 222 GND72, 223 GND73, 224 GND74, 225 GND75, 226 GND76, 227 GND77, 228 GND78, 229 GND79, 230 GND80, 231 GND81, 232 GND82, 233 GND83, 234 GND84
part D pins: 1 I2C1_CLK, 2 UART1_RI, 3 UART1_RTS, 4 UART1_CTS, 5 UART1_TX, 6 UART1_RX, 7 UART1_DTR, 8 UART1_DCD, 9 UART1_DSR, 12 USB_D-, 13 USB_D+, 14 HSIC_DATA, 15 HSIC_STRB, 16 USB_VBUS, 24 ADC1, 25 ADC0, 33 PCM_OUT/I2S_OUT, 34 PCM_IN/I2S_IN, 35 PCM_SYNC/I2S_CLK, 36 PCM_CLK/I2S_CLK, 51 SPI1_MRDY, 52 SPI1_MISO, 53 SPI1_CLK, 54 SPI1_MOSI, 66 I2C1_DATA, 91 USB_ID, 96 UART2_TX, 97 UART2_RX, 107 ADC2, 108 ADC3, 161 SDIO_CMD, 162 SDIO_CLK, 163 SDIO_DATA_3, 164 SDIO_DATA_2, 165 SDIO_DATA_1, 166 SDIO_DATA_0
part E pins: 26 UIM1_VCC, 27 UIM1_CLK, 28 UIM_DATA, 29 UIM_RESET_N, 55 UIM2_VCC, 56 UIM2_DATA, 57 UIM2_RESET_N, 58 UIM2_CLK, 64 UIM1_DET, 65 UIM2_DET
part F pins: 11 RESET_IN_N, 22 SYS_CLK, 23 SLEEP_CLK, 42 DR_SYNC, 46 RESET_OUT_N, 47 TP1, 59 POWER_ON_N, 60 TX_ON, 106 WWAN_LED_N, 110 WAKE_ON_WWAN, 151 W_DISABLE_N, 152 SAFE_PWR_REMOVE
part G pins: 236 J1, 237 J2, 238 J3, 239 J4, 240 J5, 241 J6, 242 J7, 243 J8, 244 J9
part H pins: 245 MC1, 246 MC2, 247 MC3, 248 MC4, 249 MC5, 250 MC6, 251 MC7, 252 MC8, 253 MC9, 254 MC10, 255 MC11, 256 MC12, 257 MC13, 258 MC14, 259 MC15, 260 MC16, 261 MC17, 262 MC18, 263 MC19, 264 MC20
part I pins: 10 GPIO2, 40 GPIO7, 41 GPIO8, 44 GPIO13, 92 GPIO38, 93 GPIO39, 94 GPIO40, 95 GPIO41, 100 GPIO34/COEX1, 101 GPIO35/COEX2, 102 GPIO36/COEX3, 103 GPIO37, 104 GPIO32, 105 GPIO33, 109 GPIO42, 147 GPIO21, 148 GPIO22, 149 GPIO23, 150 GPIO24, 153 ANT_CNTL0/GPIO28, 154 ANT_CNTL1/GPIO29, 155 ANT_CNTL2/GPIO30, 156 ANT_CNTL3/GPIO31, 159 GPIO25
part A text: Active Antenna GNSS Vant <6.3V; GNSS; WWAN; WP7585
part B text: RESERVED
part C text: RF POWER; SUPPLY; [3.4;4.3]V; BASEBAND; POWER; GPIO VOLTAGE OUTPUT; VOUT = 1.8V; RTC BACKUP POWER; VIN[2.0;3.25]V VOUT[2.5;3,2]V
part E text: SIM INTERFACE 1; SIM INTERFACE 2
part F text: Test Point Boot Control; 0 - Download Mode; 1 - Normal Mode; 0 - Aciona; 1 - Do Nothing; 0 - Reset; 1 - Normal; 0 - Ativo; 1 - Pronto; 0 - Desabilita Rádio; Saída Clock; 19.2 MHz; 32.768 kHz; Led ligado; 1 - Desligado; Interrupção Out; TX Activity; GPS dead reckoning sync
part G text: Test Points
part H text: Fixação mecânica
part I text: GPIO; [[1.8V]]

## CON_U.FL-R-SMT-1(10)_50OHM_-40_90C
designator J?
FrequencyRange: [-,6]GHz; Geometry.Height: 1.25mm; MAN: Hirose; ORIGEM: SFI_ED03r1; PKG: SMT; VALOR: Conector Coaxial 50Ohm SMT; DESC: CON_U.FL-R-SMT-1(10)_50OHM_-40_90C; PN: U.FL-R-SMT-1(10)
footprint U.FL-R-SMT-1
pins: 1 SIG, 2 GND1, 3 GND2

## CONN_54819-0578_2
designator J?
PKG: PTH; DESC: CONN RCPT USB TYPE A R/A PCB; VALOR: USB type A; PN: 292303-1, 87520-0010BLF; MAN: TE-Connectivity, FCI; Geometry.Height: 7.0 mm
footprint USB_A_SH
pins: 1 P1, 2 P2, 3 P3, 4 P4, 5 SHELD1, 6 PAD4
text: SHIELD; VBUS; D-; D+; GND

## CONN_EHF_105_01_F_D_SM
designator ?
VALOR: *; PN: *; ORIGEM: *; MAN: *; DESC: *
footprint BGS2-EHS8
pins: 1, 2, 3, 4, 5, 6, 7, 8, 9, 10

## CONN_EHS_PCB
designator ?
DESC: CONECTOR BOTTOM; VALOR: *; PN: *; ORIGEM: *; MAN: *
footprint CONN-EHS
pins: 1, 3, 4, 9, 10 VDIG_DIGITAL_POWER, 11 RXDO, 13 TXDO, 33 RESET, 79 IGNITION_AUTO_ON, 81 DGND, 82 DGND, 85 DGND, 86 DGND, 89 DGND, 90 DGND, 210 RXDO, 212 TXDO

## CONN_EHS_PCB_SIMP
designator ?
DESC: CONECTOR BOTTOM; VALOR: *; PN: *; ORIGEM: *; MAN: *
footprint CONN-EHS-SIMPLE2
pins: 33 RESET, 63 DGND, 79 IGNITION_AUTO_ON, 204 VDIG_DIGITAL_POWER, 209 VDIG_DIGITAL_POWER, 210 RXDO, 212 TXDO

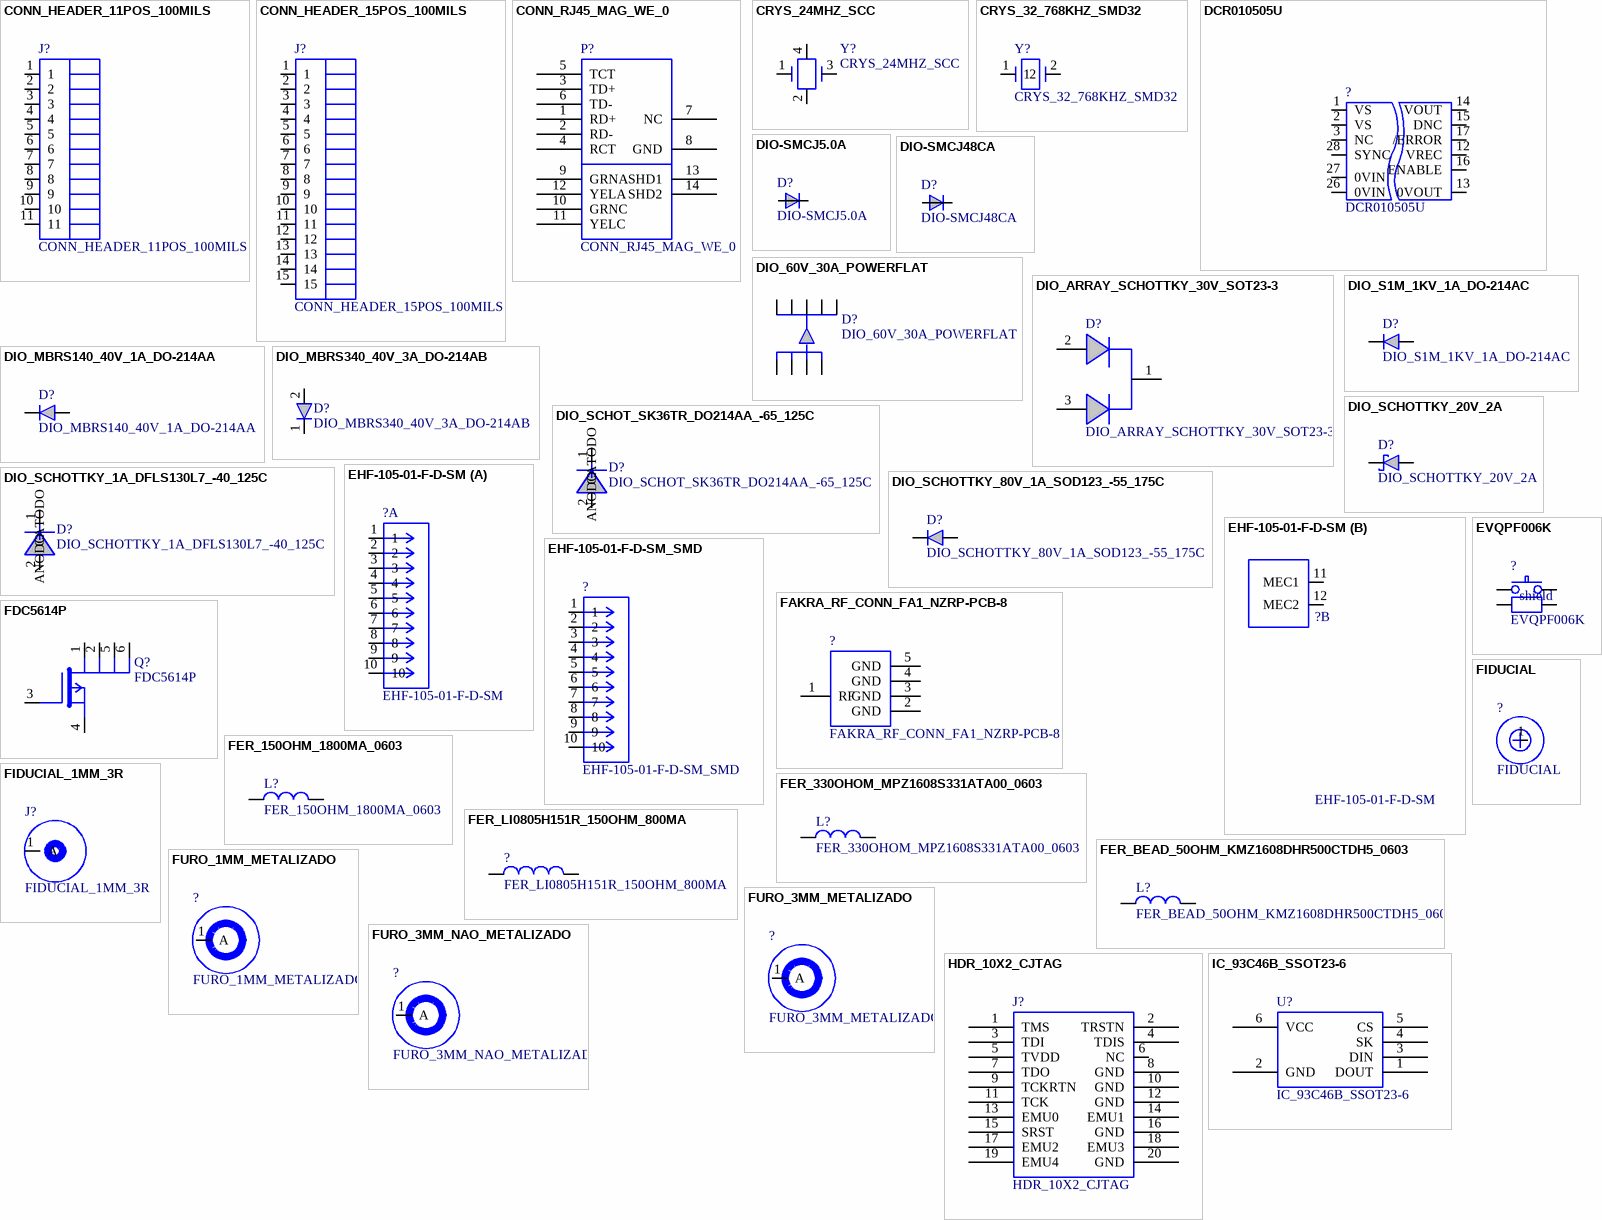
[diagram p4: symbols CONN_HEADER_11POS_100MILS to IC_93C46B_SSOT23-6]

## CONN_HEADER_11POS_100MILS
designator J?
VALOR: 11 POS 2.54; PN: 77311-818-11LF; PKG: PTH; ORIGEM: SFI ED03r1; MAN: Amphenol FCI; Geometry.Height: 11.43mm; DESC: CONN HEADER .100 SINGL STR 11POS
footprint CONN_HEADER_11_POS_100MILS
pins: 1, 2, 3, 4, 5, 6, 7, 8, 9, 10, 11

## CONN_HEADER_15POS_100MILS
designator J?
DESC: CONN HEADER 15 POS 2.54; Geometry.Height: 8.54mm; MAN: WURTH; Sullins; ORIGEM: SFI ED03r1; PKG: PTH; PN: 61301511121; PREC015SAAN-RC; VALOR: 15 POS 2.54; TemperatureRange: [-40;125]ºC
footprint CONN_HEADER_15_POS_100MILS
pins: 1, 2, 3, 4, 5, 6, 7, 8, 9, 10, 11, 12, 13, 14, 15

## CONN_RJ45_MAG_WE_0
designator P?
PKG: PTH; DESC: RJ-45 10/100 W/Magnetics; VALOR: RJ45 10/100; PN: 7499010211A, 7499011212A; MAN: WURTH, WURTH; Geometry.Height: 13.5 mm
footprint RJ45-7499010211A
pins: 1 RD+, 2 RD-, 3 TD+, 4 RCT, 5 TCT, 6 TD-, 7 NC, 8 GND, 9 GRNA, 10 GRNC, 11 YELC, 12 YELA, 13 SHD1, 14 SHD2

## CRYS_24MHZ_SCC
designator Y?
PKG: SMD; VALOR: CS325-24.000MABJ-UT; MAN: CITIZEN; Geometry.Height: 0.55 mm; DESC: AT-CUT Crystal 24MHz; PN: CS325-24.000MABJ-UT
footprint XTAL4_3P2X2P5_SMD
pins: 1, 2 NC0, 3, 4 NC1

## CRYS_32_768KHZ_SMD32
designator Y?
PKG: SMD; VALOR: MC-30632.7680k-A; MAN: EPSON; Geometry.Height: 2.54 mm; DESC: Crystal 32.768KHz Fundamental; PN: MC-30632.7680k-A
footprint MC-306
pins: 1, 2

## DCR010505U
designator ?
PKG: SMD; MAN: Texas Instruments; Geometry.Height: 2.65 mm; DESC: Miniature 1W Isolated Regulated DC/DC Converters; VALOR: DCR010505U; PN: DCR010505U
footprint DCR010505U
pins: 1 VS, 2 VS, 3 NC, 12 VREC, 13 0VOUT, 14 VOUT, 15 DNC, 16 ENABLE, 17 /ERROR, 26 0VIN, 27 0VIN, 28 SYNC

## DIO-SMCJ5.0A
designator D?
DESC: Transient Voltage Suppression Diodes; PKG: DO214-AB; MAN: Littelfuse; Geometry.Height: 2.65mm; VALOR: SMCJ5.0A; PN: SMCJ5.0A
footprint DO-214AB(SMC)
pins: 1, 2

## DIO-SMCJ48CA
designator D?
MAN: VISHAY; DESC: Transient Voltage Suppression Diodes 53VDCbr; PKG: DO214-AB; Geometry.Height: 2.65mm; PN: SMCJ48CA; VALOR: SMCJ48CA
footprint DO-214AB(SMC)
pins: 1, 2

## DIO_60V_30A_POWERFLAT
designator D?
DESC: DIODE SCHOTTKY 60V 30A POWERFLAT; PKG: 8-PowerVDFN; PN: STPS30M60DJF-TR; VALOR: 60V,30A; Geometry.Height: 1mm; MAN: ST
footprint 8-POWERVDFN
pins: 1 A2, 2 A1, 3 A3, 4 A4, 5 K3, 6 K4, 7 K2, 8 K1, 9 K5

## DIO_ARRAY_SCHOTTKY_30V_SOT23-3
designator D?
DESC: DIODE SCHOTTKY 30V 200MA SOT23-3; Geometry.Height: 1.1 mm; MAN: DIODES INCORPORATED; PKG: SOT-23-3; PN: BAT54TA; VALOR: 30V,0.2A
footprint SOT23_IPC
pins: 1, 2, 3

## DIO_MBRS140_40V_1A_DO-214AA
designator D?
Geometry.Height: 2mm; VALOR: 40V,1A; PN: MBRS140;MBRS140T3G; MAN: FAIRCHILD;ON SEMICONDUCTORS; DESC: DIODE SCHOTTKY 40V 1A SMB; PKG: DO-214AA
footprint DO-214AC(SMA)
pins: 1, 2

## DIO_MBRS340_40V_3A_DO-214AB
designator D?
MAN: FAIRCHILD;VISHAY; Geometry.Height: 3mm; VALOR: 40V,3A; PN: SS34;VS-MBRS340TRPBF; PKG: DO-214AB, SMC; DESC: DIODE SCHOTTKY 40V 3A SMC
footprint DO-214AB(SMC)
pins: 1, 2

## DIO_S1M_1KV_1A_DO-214AC
designator D?
PKG: DO-214AC, SMA; VALOR: 1000V,1A; PN: S1M; MRA4007T3G; MAN: FAIRCHILD; ON SEMICONDUCTORS; Geometry.Height: 2.2mm; DESC: DIODE GEN PURPOSE 1000V 1A SMA
footprint DO-214AC(SMA)
pins: 1, 2

## DIO_SCHOT_SK36TR_DO214AA_-65_125C
designator D?
CurrentRange: [0;3]A; DESC: DIO_SCHOTTKY_3A_DO214AA_-65_125C; Geometry.Height: 2.95 mm; MAN: SMC Diode Solutions; ORIGEM: SFI ED03r1; PKG: DO_214AA, SMB; PN: SK36TR; TemperatureRange: [-65;125]ºC; VALOR: DIODO SCHOTTKY SK36TR; VoltageRange: Peak_Reverse_voltage=60V;Max_RMS_Voltage=42V;Vf=0,75
footprint SK36TR
pins: 1 ANODO, 2 CATODO

## DIO_SCHOTTKY_1A_DFLS130L7_-40_125C
designator D?
CurrentRange: [0;1]A; DESC: DIO_SCHOTTKY_1A_DFLS130L-7 _-40_125C; Geometry.Height: 0.98 mm; MAN: Diodes Incorporated; ORIGEM: SFI ED03r1; PKG: POWERDI®123; PN: DFLS130L-7; TemperatureRange: [-40;125]ºC; VALOR: DIODO SCHOTTKY DFLS130L-7; VoltageRange: Peak_Reverse_voltage=50V;Vf=0,36
footprint DFLS130L-7
pins: 1 ANODO, 2 CATODO

## DIO_SCHOTTKY_20V_2A
designator D?
DESC: DIODE SCHOTTKY 20V 2A SMA; Geometry.Height: 1.17mm; MAN: Diodes Incorporated; PKG: DO-214AC, SMA; PN: B220A-13-F; VALOR: B220A-13-F
footprint SMA
footprint SMA-L
footprint SMA-M
pins: 1 K, 2 A

## DIO_SCHOTTKY_80V_1A_SOD123_-55_175C
designator D?
DESC: DIODE SCHOTTKY 80V 1A SOD123; Geometry.Height: 2mm; MAN: DIODES INC; ORIGEM: SFI ED03r1; PKG: SOD-123; PN: MBR180S1-7; VALOR: MBR180; TemperatureRange: [-55;175]ºC; VoltageRange: Vrm=80V;Vr(rms)=56; CurrentRange: Io=1;Ifsm=24
footprint DIO_SOD-123F
pins: 1 K, 2 A

## EHF-105-01-F-D-SM
designator ?
VALOR: CON_10POS_SMD; PKG: SMD; Geometry.Height: 8.25mm; DESC: CONN HEADER .05" 10POS DUAL SMD; MAN: Samtec Inc; PN: EHF-105-01-F-D-SM
footprint CON10_2X5_DUZL_EHF
part A pins: 1, 2, 3, 4, 5, 6, 7, 8, 9, 10
part B pins: 11 MEC1, 12 MEC2

## EHF-105-01-F-D-SM_SMD
designator ?
MAN: Samtec Inc; PN: EHF-105-01-F-D-SM
footprint CON10_2X5_DUZL_EHF_SMD
pins: 1, 2, 3, 4, 5, 6, 7, 8, 9, 10

## EVQPF006K
designator ?
Geometry.Height: 5.85mm; MAN: Panasonic; C&K Components; PN: EVQPF006K; PTS645VL58 LFS;; PKG: PTH; DESC: SWITCH TACTILE SPST-NO 0.02A 15V; VALOR: EVQPF006K
footprint EVQPF006K
pins: 1, 2, 3 SHIELD1, 4 SHIELD2
text: shield

## FAKRA_RF_CONN_FA1_NZRP-PCB-8
designator ?
DESC: CONN FAKRA PLUG JACK R/A 50 OHM PCB; Geometry.Height: 10mm; MAN: AMPHENOL; PKG: PTH; PN: FA1-NZRP-PCB-; VALOR: FAKRA, 50ohm
footprint FAKRA
pins: 1 RF, 2 GND, 3 GND, 4 GND, 5 GND

## FDC5614P
designator Q?
Geometry.Height: 0.9mm; DESC: 60V P-Channel Logic Level PowerTrench MOSFET; MAN: Fairchild; PKG: SUPERSOT-6; PN: FDC5614P; VALOR: FDC5614P
footprint SUPERSOT-6
pins: 1, 2, 3, 4, 5, 6

## FER_150OHM_1800MA_0603
designator L?
DESC: Ferrite Bead 150 Ohm 1.800mA; Geometry.Height: 0.9 mm; MAN: TDK; ORIGEM: SFI ED03r1; PKG: 0603; PN: MPZ1608Y151BTA00; VALOR: 150Ohm 1.800mA
footprint IND0603
pins: 1, 2

## FER_330OHOM_MPZ1608S331ATA00_0603
designator L?
CurrentRange: [-;1.7]A; DESC: FER_330Ohm@100MHz_1.7A_MPZ1608S331ATA00_0603_-55_125C; Geometry.Height: 0.95 mm; MAN: TDK Corporation; ORIGEM: SFI ED03r1; PKG: 0603; TemperatureRange: [-55;125]ºC; VALOR: 330Ohm; PN: MPZ1608S331ATA00
footprint IND0603
pins: 1, 2

## FER_BEAD_50OHM_KMZ1608DHR500CTDH5_0603
designator L?
Geometry.Height: 0.75 mm; MAN: TDK Corporation; ORIGEM: SFI ED03r1; PKG: 0603; TemperatureRange: [-55;155] ºC; VALOR: 50 Ohm; CurrentRange: [0;500]mA; DESC: FER_BEAD_50ohm_KMZ1608DHR500CTDH5_0603; PN: KMZ1608DHR500CTDH5
footprint IND0603
pins: 1, 2

## FER_LI0805H151R_150OHM_800MA
designator ?
PKG: 0805; VALOR: 150Ohm 800mA; PN: LI0805H151R-10; MAN: Laird; Geometry.Height: 0.9 mm; DESC: Ferrite Bead 150 Ohm 800mA
footprint SM-7351-IND-0805
pins: 1, 2

## FIDUCIAL
designator ?
VALOR: *; PN: *; PKG: *; MAN: *; Geometry.Height: *; DESC: FIDUCIAL
footprint NG2-FID_1MM_2.5R_BOTTOM
footprint NG2-FID_1MM_2.5R_TOP
pins: 1

## FIDUCIAL_1MM_3R
designator J?
DESC: Fiducial 1 mm 3R; ORIGEM: SFI ED03r1
footprint FID_1MM_2.5R_BOTTOM
footprint FID_1MM_2.5R_TOP
pins: 1 A

## FURO_1MM_METALIZADO
designator ?
DESC: FURO METALIZADO 1MM; ORIGEM: SFI ED03r1; PKG: PTH; VALOR: 1mm, Metalizado
footprint FURO_1.0_METALIZADO
pins: 1 A

## FURO_3MM_METALIZADO
designator ?
DESC: FURO METALIZADO 3MM; ORIGEM: SFI ED03r1
footprint FURO_3.0_METALIZADO
pins: 1 A

## FURO_3MM_NAO_METALIZADO
designator ?
DESC: FURO NAO METALIZADO 3MM; ORIGEM: SFI ED03r1
footprint FURO_3.0_NMETALIZADO
pins: 1 A

## HDR_10X2_CJTAG
designator J?
PKG: SMD; VALOR: FTR-110-03-G-D-06; MAN: SAMTEC; Geometry.Height: 5.72 mm; DESC: Dual Line Header 10x2pin Tin; PN: FTR-110-03-G-D-06
footprint HEADER10X2_SMD
pins: 1 TMS, 2 TRSTN, 3 TDI, 4 TDIS, 5 TVDD, 6 NC, 7 TDO, 8 GND (power), 9 TCKRTN, 10 GND (power), 11 TCK, 12 GND (power), 13 EMU0, 14 EMU1, 15 SRST, 16 GND (power), 17 EMU2, 18 EMU3, 19 EMU4, 20 GND (power)

## IC_93C46B_SSOT23-6
designator U?
PKG: SOT-23; DESC: 2K Microwire Compatible Serial EEPROM; VALOR: 93LC56BT-I/OT; MAN: Microchip; Geometry.Height: 1.45 mm; PN: 93LC56BT-I/OT
footprint SOT23-6
pins: 1 DOUT, 2 GND (power), 3 DIN, 4 SK, 5 CS, 6 VCC (power)

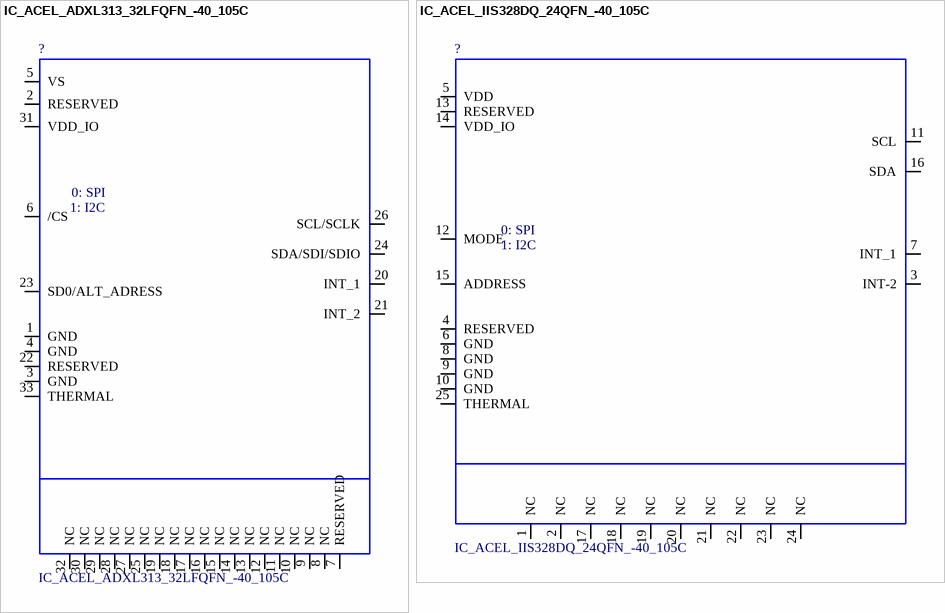
[diagram p5: symbols IC_ACEL_ADXL313_32LFQFN_-40_105C to IC_ACEL_IIS328DQ_24QFN_-40_105C]

## IC_ACEL_ADXL313_32LFQFN_-40_105C
designator ?
CurrentRange: [0.1u;300u]A; DESC: IC_ACELEROMETER_32FLQFN_-40-105C; Geometry.Height: 1.55mm; MAN: Analog Devices Inc.; ORIGEM: SFI ED03r1; PN: ADXL313WACPZ-RL7; TemperatureRange: [-40º;105º]C; VoltageRange: [2;3.6]V; PKG: 32LFQFN; VALOR: ADXL313WACPZ-RL7
footprint ADXL313WACPZ-RL7
pins: 1 GND, 2 RESERVED, 3 GND, 4 GND, 5 VS (power), 6 /CS, 7 RESERVED, 8 NC, 9 NC, 10 NC, 11 NC, 12 NC, 13 NC, 14 NC, 15 NC, 16 NC, 17 NC, 18 NC, 19 NC, 20 INT_1, 21 INT_2, 22 RESERVED, 23 SD0/ALT_ADRESS, 24 SDA/SDI/SDIO (io), 25 NC, 26 SCL/SCLK, 27 NC, 28 NC, 29 NC, 30 NC, 31 VDD_IO, 32 NC, 33 THERMAL
text: 0: SPI; 1: I2C

## IC_ACEL_IIS328DQ_24QFN_-40_105C
designator ?
CurrentRange: [1u;250u]A; DESC: Acelerômetro IIS328DQTR _24QFN_-40 105C; Geometry.Height: 1.85mm; MAN: STMicroelectronics; ORIGEM: SFI ED03r1; PKG: 24QFN; PN: IIS328DQTR; TemperatureRange: [-40;105]C; VoltageRange: [2.16;3.6]V; VALOR: IIS328DQTR
footprint IIS328DQTR
pins: 1 NC, 2 NC, 3 INT-2, 4 RESERVED, 5 VDD (power), 6 GND, 7 INT_1, 8 GND, 9 GND, 10 GND, 11 SCL, 12 MODE, 13 RESERVED, 14 VDD_IO, 15 ADDRESS, 16 SDA (io), 17 NC, 18 NC, 19 NC, 20 NC, 21 NC, 22 NC, 23 NC, 24 NC, 25 THERMAL
text: 0: SPI; 1: I2C

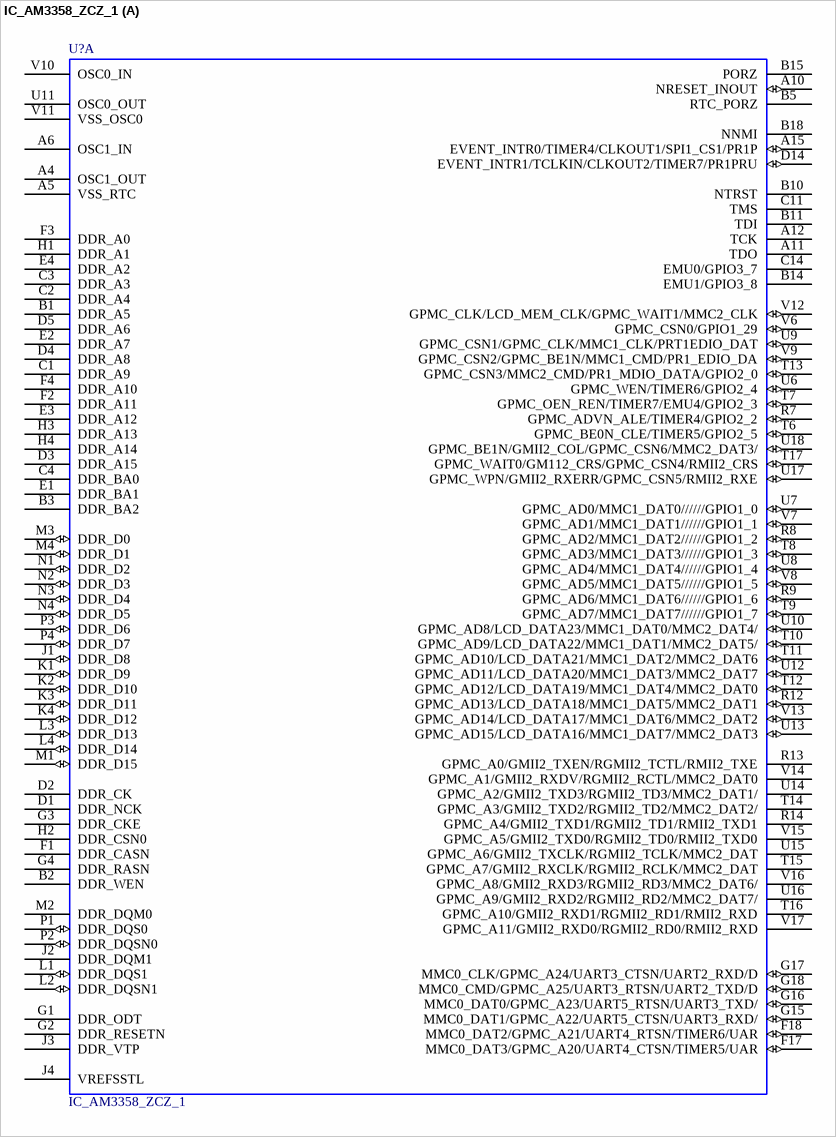
[diagram p6: symbol IC_AM3358_ZCZ_1]

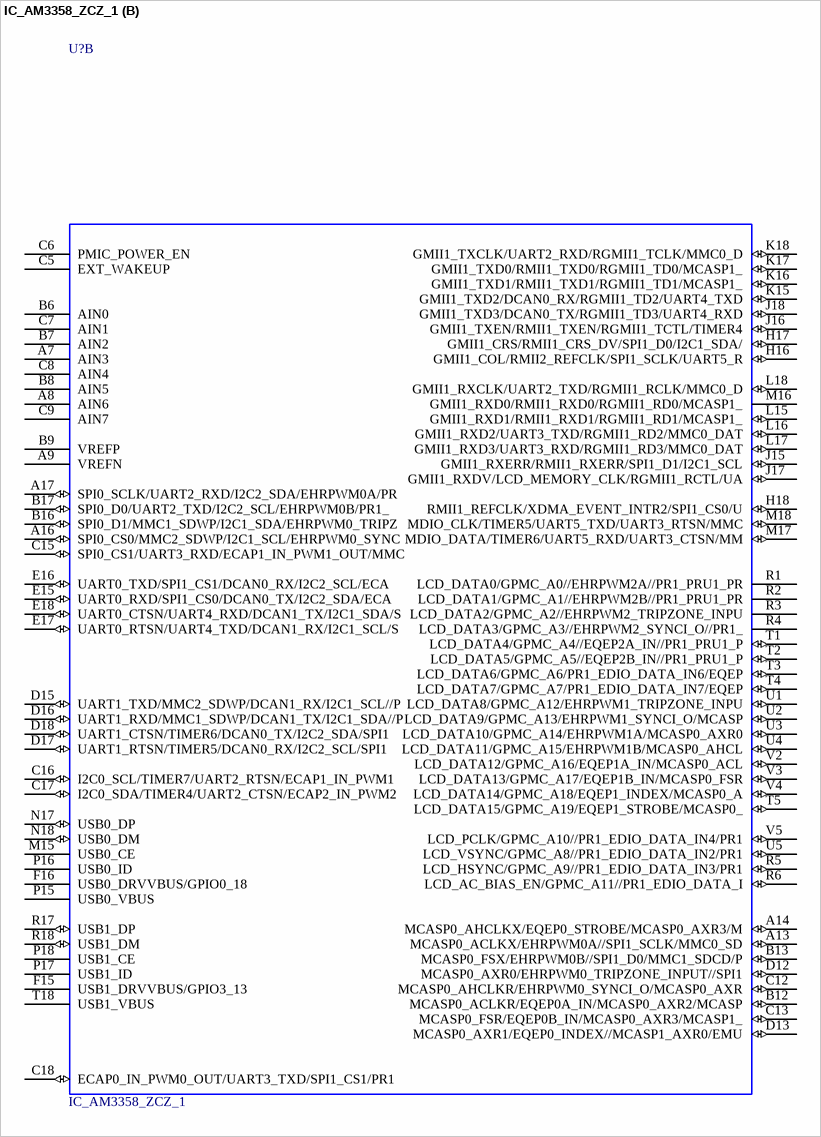
[diagram p7: symbol IC_AM3358_ZCZ_1]

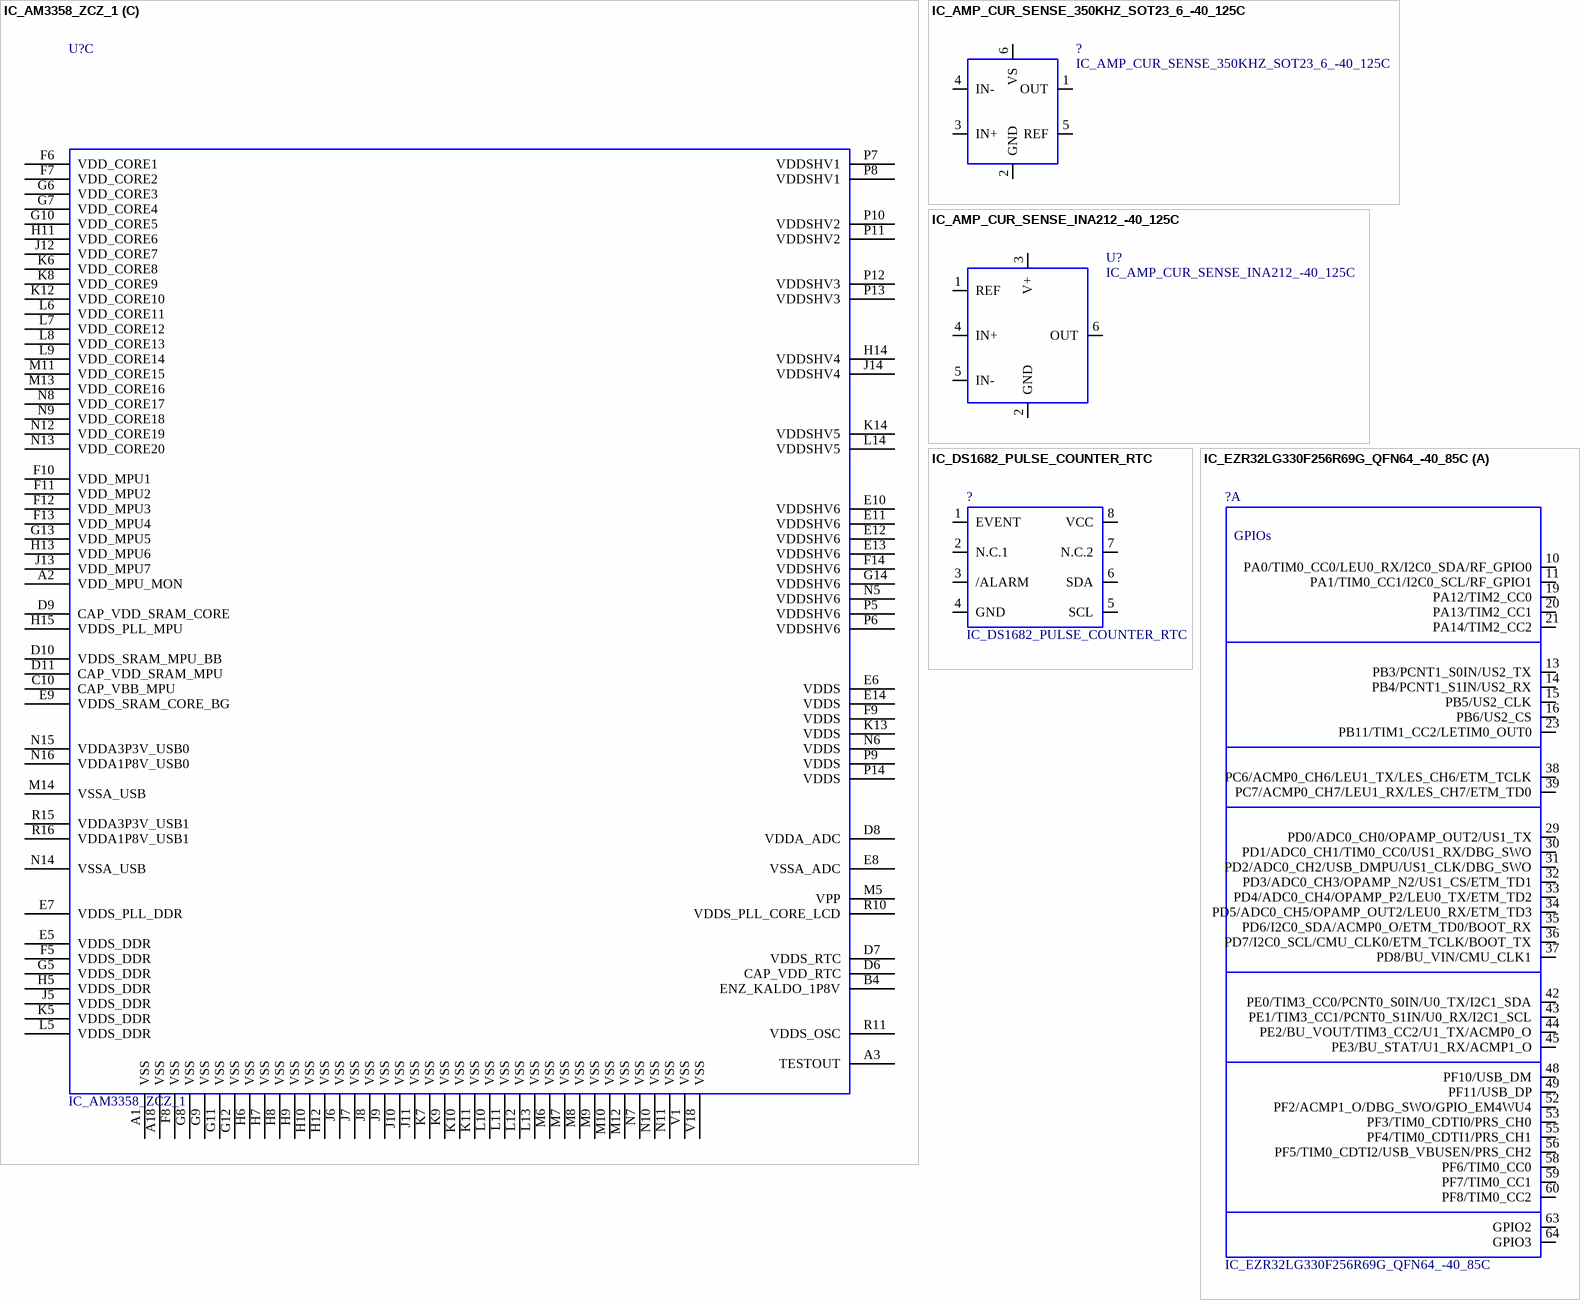
[diagram p8: symbols IC_AM3358_ZCZ_1 to IC_EZR32LG330F256R69G_QFN64_-40_85C]

## IC_AM3358_ZCZ_1
designator U?
PKG: S-PBGA-N324 (ZCZ); VALOR: AM3358ZCZD72; MAN: TI; Geometry.Height: 1.4 mm; DESC: SubArctic Cortex A8 Processor 15x15; PN: AM3358ZCZD72
footprint AM33XX_15X15
part A pins: A4 OSC1_OUT, A5 VSS_RTC (power), A6 OSC1_IN, A10 NRESET_INOUT (io), A11 TDO, A12 TCK, A15 EVENT_INTR0/TIMER4/CLKOUT1/SPI1_CS1/PR1P (io), B1 DDR_A5, B2 DDR_WEN, B3 DDR_BA2, B5 RTC_PORZ, B10 NTRST, B11 TDI, B14 EMU1/GPIO3_8, B15 PORZ, B18 NNMI, C1 DDR_A9, C2 DDR_A4, C3 DDR_A3, C4 DDR_BA0, C11 TMS, C14 EMU0/GPIO3_7, D1 DDR_NCK, D2 DDR_CK, D3 DDR_A15, D4 DDR_A8, D5 DDR_A6, D14 EVENT_INTR1/TCLKIN/CLKOUT2/TIMER7/PR1PRU (io), E1 DDR_BA1, E2 DDR_A7, E3 DDR_A12, E4 DDR_A2, F1 DDR_CASN, F2 DDR_A11, F3 DDR_A0, F4 DDR_A10, F17 MMC0_DAT3/GPMC_A20/UART4_CTSN/TIMER5/UAR (io), F18 MMC0_DAT2/GPMC_A21/UART4_RTSN/TIMER6/UAR (io), G1 DDR_ODT, G2 DDR_RESETN, G3 DDR_CKE, G4 DDR_RASN, G15 MMC0_DAT1/GPMC_A22/UART5_CTSN/UART3_RXD/ (io), G16 MMC0_DAT0/GPMC_A23/UART5_RTSN/UART3_TXD/ (io), G17 MMC0_CLK/GPMC_A24/UART3_CTSN/UART2_RXD/D (io), G18 MMC0_CMD/GPMC_A25/UART3_RTSN/UART2_TXD/D (io), H1 DDR_A1, H2 DDR_CSN0, H3 DDR_A13, H4 DDR_A14, J1 DDR_D8 (io), J2 DDR_DQM1, J3 DDR_VTP, J4 VREFSSTL, K1 DDR_D9 (io), K2 DDR_D10 (io), K3 DDR_D11 (io), K4 DDR_D12 (io), L1 DDR_DQS1 (io), L2 DDR_DQSN1 (io), L3 DDR_D13 (io), L4 DDR_D14 (io), M1 DDR_D15 (io), M2 DDR_DQM0, M3 DDR_D0 (io), M4 DDR_D1 (io), N1 DDR_D2 (io), N2 DDR_D3 (io), N3 DDR_D4 (io), N4 DDR_D5 (io), P1 DDR_DQS0 (io), P2 DDR_DQSN0 (io), P3 DDR_D6 (io), P4 DDR_D7 (io), R7 GPMC_ADVN_ALE/TIMER4/GPIO2_2 (io), R8 GPMC_AD2/MMC1_DAT2//////GPIO1_2 (io), R9 GPMC_AD6/MMC1_DAT6//////GPIO1_6 (io), R12 GPMC_AD13/LCD_DATA18/MMC1_DAT5/MMC2_DAT1 (io), R13 GPMC_A0/GMII2_TXEN/RGMII2_TCTL/RMII2_TXE, R14 GPMC_A4/GMII2_TXD1/RGMII2_TD1/RMII2_TXD1, T6 GPMC_BE0N_CLE/TIMER5/GPIO2_5 (io), T7 GPMC_OEN_REN/TIMER7/EMU4/GPIO2_3 (io), T8 GPMC_AD3/MMC1_DAT3//////GPIO1_3 (io), T9 GPMC_AD7/MMC1_DAT7//////GPIO1_7 (io), T10 GPMC_AD9/LCD_DATA22/MMC1_DAT1/MMC2_DAT5/ (io), T11 GPMC_AD10/LCD_DATA21/MMC1_DAT2/MMC2_DAT6 (io), T12 GPMC_AD12/LCD_DATA19/MMC1_DAT4/MMC2_DAT0 (io), T13 GPMC_CSN3/MMC2_CMD/PR1_MDIO_DATA/GPIO2_0 (io), T14 GPMC_A3/GMII2_TXD2/RGMII2_TD2/MMC2_DAT2/, T15 GPMC_A7/GMII2_RXCLK/RGMII2_RCLK/MMC2_DAT, T16 GPMC_A10/GMII2_RXD1/RGMII2_RD1/RMII2_RXD, T17 GPMC_WAIT0/GM112_CRS/GPMC_CSN4/RMII2_CRS (io), U6 GPMC_WEN/TIMER6/GPIO2_4 (io), U7 GPMC_AD0/MMC1_DAT0//////GPIO1_0 (io), U8 GPMC_AD4/MMC1_DAT4//////GPIO1_4 (io), U9 GPMC_CSN1/GPMC_CLK/MMC1_CLK/PRT1EDIO_DAT (io), U10 GPMC_AD8/LCD_DATA23/MMC1_DAT0/MMC2_DAT4/ (io), U11 OSC0_OUT, U12 GPMC_AD11/LCD_DATA20/MMC1_DAT3/MMC2_DAT7 (io), U13 GPMC_AD15/LCD_DATA16/MMC1_DAT7/MMC2_DAT3 (io), U14 GPMC_A2/GMII2_TXD3/RGMII2_TD3/MMC2_DAT1/, U15 GPMC_A6/GMII2_TXCLK/RGMII2_TCLK/MMC2_DAT, U16 GPMC_A9/GMII2_RXD2/RGMII2_RD2/MMC2_DAT7/, U17 GPMC_WPN/GMII2_RXERR/GPMC_CSN5/RMII2_RXE (io), U18 GPMC_BE1N/GMII2_COL/GPMC_CSN6/MMC2_DAT3/ (io), V6 GPMC_CSN0/GPIO1_29 (io), V7 GPMC_AD1/MMC1_DAT1//////GPIO1_1 (io), V8 GPMC_AD5/MMC1_DAT5//////GPIO1_5 (io), V9 GPMC_CSN2/GPMC_BE1N/MMC1_CMD/PR1_EDIO_DA (io), V10 OSC0_IN, V11 VSS_OSC0 (power), V12 GPMC_CLK/LCD_MEM_CLK/GPMC_WAIT1/MMC2_CLK (io), V13 GPMC_AD14/LCD_DATA17/MMC1_DAT6/MMC2_DAT2 (io), V14 GPMC_A1/GMII2_RXDV/RGMII2_RCTL/MMC2_DAT0, V15 GPMC_A5/GMII2_TXD0/RGMII2_TD0/RMII2_TXD0, V16 GPMC_A8/GMII2_RXD3/RGMII2_RD3/MMC2_DAT6/, V17 GPMC_A11/GMII2_RXD0/RGMII2_RD0/RMII2_RXD
part B pins: A7 AIN3, A8 AIN6, A9 VREFN, A13 MCASP0_ACLKX/EHRPWM0A//SPI1_SCLK/MMC0_SD (io), A14 MCASP0_AHCLKX/EQEP0_STROBE/MCASP0_AXR3/M (io), A16 SPI0_CS0/MMC2_SDWP/I2C1_SCL/EHRPWM0_SYNC (io), A17 SPI0_SCLK/UART2_RXD/I2C2_SDA/EHRPWM0A/PR (io), B6 AIN0, B7 AIN2, B8 AIN5, B9 VREFP, B12 MCASP0_ACLKR/EQEP0A_IN/MCASP0_AXR2/MCASP (io), B13 MCASP0_FSX/EHRPWM0B//SPI1_D0/MMC1_SDCD/P (io), B16 SPI0_D1/MMC1_SDWP/I2C1_SDA/EHRPWM0_TRIPZ (io), B17 SPI0_D0/UART2_TXD/I2C2_SCL/EHRPWM0B/PR1_ (io), C5 EXT_WAKEUP, C6 PMIC_POWER_EN, C7 AIN1, C8 AIN4, C9 AIN7, C12 MCASP0_AHCLKR/EHRPWM0_SYNCI_O/MCASP0_AXR (io), C13 MCASP0_FSR/EQEP0B_IN/MCASP0_AXR3/MCASP1_ (io), C15 SPI0_CS1/UART3_RXD/ECAP1_IN_PWM1_OUT/MMC (io), C16 I2C0_SCL/TIMER7/UART2_RTSN/ECAP1_IN_PWM1 (io), C17 I2C0_SDA/TIMER4/UART2_CTSN/ECAP2_IN_PWM2 (io), C18 ECAP0_IN_PWM0_OUT/UART3_TXD/SPI1_CS1/PR1 (io), D12 MCASP0_AXR0/EHRPWM0_TRIPZONE_INPUT//SPI1 (io), D13 MCASP0_AXR1/EQEP0_INDEX//MCASP1_AXR0/EMU (io), D15 UART1_TXD/MMC2_SDWP/DCAN1_RX/I2C1_SCL//P (io), D16 UART1_RXD/MMC1_SDWP/DCAN1_TX/I2C1_SDA//P (io), D17 UART1_RTSN/TIMER5/DCAN0_RX/I2C2_SCL/SPI1 (io), D18 UART1_CTSN/TIMER6/DCAN0_TX/I2C2_SDA/SPI1 (io), E15 UART0_RXD/SPI1_CS0/DCAN0_TX/I2C2_SDA/ECA (io), E16 UART0_TXD/SPI1_CS1/DCAN0_RX/I2C2_SCL/ECA (io), E17 UART0_RTSN/UART4_TXD/DCAN1_RX/I2C1_SCL/S (io), E18 UART0_CTSN/UART4_RXD/DCAN1_TX/I2C1_SDA/S (io), F15 USB1_DRVVBUS/GPIO3_13, F16 USB0_DRVVBUS/GPIO0_18, H16 GMII1_COL/RMII2_REFCLK/SPI1_SCLK/UART5_R (io), H17 GMII1_CRS/RMII1_CRS_DV/SPI1_D0/I2C1_SDA/ (io), H18 RMII1_REFCLK/XDMA_EVENT_INTR2/SPI1_CS0/U (io), J15 GMII1_RXERR/RMII1_RXERR/SPI1_D1/I2C1_SCL (io), J16 GMII1_TXEN/RMII1_TXEN/RGMII1_TCTL/TIMER4 (io), J17 GMII1_RXDV/LCD_MEMORY_CLK/RGMII1_RCTL/UA (io), J18 GMII1_TXD3/DCAN0_TX/RGMII1_TD3/UART4_RXD (io), K15 GMII1_TXD2/DCAN0_RX/RGMII1_TD2/UART4_TXD (io), K16 GMII1_TXD1/RMII1_TXD1/RGMII1_TD1/MCASP1_ (io), K17 GMII1_TXD0/RMII1_TXD0/RGMII1_TD0/MCASP1_ (io), K18 GMII1_TXCLK/UART2_RXD/RGMII1_TCLK/MMC0_D (io), L15 GMII1_RXD1/RMII1_RXD1/RGMII1_RD1/MCASP1_ (io), L16 GMII1_RXD2/UART3_TXD/RGMII1_RD2/MMC0_DAT (io), L17 GMII1_RXD3/UART3_RXD/RGMII1_RD3/MMC0_DAT (io), L18 GMII1_RXCLK/UART2_TXD/RGMII1_RCLK/MMC0_D (io), M15 USB0_CE, M16 GMII1_RXD0/RMII1_RXD0/RGMII1_RD0/MCASP1_, M17 MDIO_DATA/TIMER6/UART5_RXD/UART3_CTSN/MM (io), M18 MDIO_CLK/TIMER5/UART5_TXD/UART3_RTSN/MMC (io), N17 USB0_DP (io), N18 USB0_DM (io), P15 USB0_VBUS, P16 USB0_ID, P17 USB1_ID, P18 USB1_CE, R1 LCD_DATA0/GPMC_A0//EHRPWM2A//PR1_PRU1_PR, R2 LCD_DATA1/GPMC_A1//EHRPWM2B//PR1_PRU1_PR, R3 LCD_DATA2/GPMC_A2//EHRPWM2_TRIPZONE_INPU, R4 LCD_DATA3/GPMC_A3//EHRPWM2_SYNCI_O//PR1_, R5 LCD_HSYNC/GPMC_A9//PR1_EDIO_DATA_IN3/PR1 (io), R6 LCD_AC_BIAS_EN/GPMC_A11//PR1_EDIO_DATA_I (io), R17 USB1_DP (io), R18 USB1_DM (io), T1 LCD_DATA4/GPMC_A4//EQEP2A_IN//PR1_PRU1_P (io), T2 LCD_DATA5/GPMC_A5//EQEP2B_IN//PR1_PRU1_P (io), T3 LCD_DATA6/GPMC_A6/PR1_EDIO_DATA_IN6/EQEP (io), T4 LCD_DATA7/GPMC_A7/PR1_EDIO_DATA_IN7/EQEP (io), T5 LCD_DATA15/GPMC_A19/EQEP1_STROBE/MCASP0_ (io), T18 USB1_VBUS, U1 LCD_DATA8/GPMC_A12/EHRPWM1_TRIPZONE_INPU (io), U2 LCD_DATA9/GPMC_A13/EHRPWM1_SYNCI_O/MCASP (io), U3 LCD_DATA10/GPMC_A14/EHRPWM1A/MCASP0_AXR0 (io), U4 LCD_DATA11/GPMC_A15/EHRPWM1B/MCASP0_AHCL (io), U5 LCD_VSYNC/GPMC_A8//PR1_EDIO_DATA_IN2/PR1 (io), V2 LCD_DATA12/GPMC_A16/EQEP1A_IN/MCASP0_ACL (io), V3 LCD_DATA13/GPMC_A17/EQEP1B_IN/MCASP0_FSR (io), V4 LCD_DATA14/GPMC_A18/EQEP1_INDEX/MCASP0_A (io), V5 LCD_PCLK/GPMC_A10//PR1_EDIO_DATA_IN4/PR1 (io)
part C pins: A1 VSS (power), A2 VDD_MPU_MON, A3 TESTOUT, A18 VSS (power), B4 ENZ_KALDO_1P8V, C10 CAP_VBB_MPU, D6 CAP_VDD_RTC (power), D7 VDDS_RTC (power), D8 VDDA_ADC (power), D9 CAP_VDD_SRAM_CORE (power), D10 VDDS_SRAM_MPU_BB (power), D11 CAP_VDD_SRAM_MPU (power), E5 VDDS_DDR (power), E6 VDDS (power), E7 VDDS_PLL_DDR (power), E8 VSSA_ADC (power), E9 VDDS_SRAM_CORE_BG (power), E10 VDDSHV6 (power), E11 VDDSHV6 (power), E12 VDDSHV6 (power), E13 VDDSHV6 (power), E14 VDDS (power), F5 VDDS_DDR (power), F6 VDD_CORE1 (power), F7 VDD_CORE2 (power), F8 VSS (power), F9 VDDS (power), F10 VDD_MPU1 (power), F11 VDD_MPU2 (power), F12 VDD_MPU3 (power), F13 VDD_MPU4 (power), F14 VDDSHV6 (power), G5 VDDS_DDR (power), G6 VDD_CORE3 (power), G7 VDD_CORE4 (power), G8 VSS (power), G9 VSS (power), G10 VDD_CORE5 (power), G11 VSS (power), G12 VSS (power), G13 VDD_MPU5 (power), G14 VDDSHV6 (power), H5 VDDS_DDR (power), H6 VSS (power), H7 VSS (power), H8 VSS (power), H9 VSS (power), H10 VSS (power), H11 VDD_CORE6 (power), H12 VSS (power), H13 VDD_MPU6 (power), H14 VDDSHV4 (power), H15 VDDS_PLL_MPU (power), J5 VDDS_DDR (power), J6 VSS (power), J7 VSS (power), J8 VSS (power), J9 VSS (power), J10 VSS (power), J11 VSS (power), J12 VDD_CORE7 (power), J13 VDD_MPU7 (power), J14 VDDSHV4 (power), K5 VDDS_DDR (power), K6 VDD_CORE8 (power), K7 VSS (power), K8 VDD_CORE9 (power), K9 VSS (power), K10 VSS (power), K11 VSS (power), K12 VDD_CORE10 (power), K13 VDDS (power), K14 VDDSHV5 (power), L5 VDDS_DDR (power), L6 VDD_CORE11 (power), L7 VDD_CORE12 (power), L8 VDD_CORE13 (power), L9 VDD_CORE14 (power), L10 VSS (power), L11 VSS (power), L12 VSS (power), L13 VSS (power), L14 VDDSHV5 (power), M5 VPP (power), M6 VSS (power), M7 VSS (power), M8 VSS (power), M9 VSS (power), M10 VSS (power), M11 VDD_CORE15 (power), M12 VSS (power), M13 VDD_CORE16 (power), M14 VSSA_USB (power), N5 VDDSHV6 (power), N6 VDDS (power), N7 VSS (power), N8 VDD_CORE17 (power), N9 VDD_CORE18 (power), N10 VSS (power), N11 VSS (power), N12 VDD_CORE19 (power), N13 VDD_CORE20 (power), N14 VSSA_USB (power), N15 VDDA3P3V_USB0 (power), N16 VDDA1P8V_USB0 (power), P5 VDDSHV6 (power), P6 VDDSHV6 (power), P7 VDDSHV1 (power), P8 VDDSHV1 (power), P9 VDDS (power), P10 VDDSHV2 (power), P11 VDDSHV2 (power), P12 VDDSHV3 (power), P13 VDDSHV3 (power), P14 VDDS (power), R10 VDDS_PLL_CORE_LCD (power), R11 VDDS_OSC (power), R15 VDDA3P3V_USB1 (power), R16 VDDA1P8V_USB1 (power), V1 VSS (power), V18 VSS (power)

## IC_AMP_CUR_SENSE_350KHZ_SOT23_6_-40_125C
designator ?
DESC: IC AMP CUR SENSE 350KHZ SOT23-6; Geometry.Height: 1.45mm; MAN: TI; ORIGEM: SFI ED03r1; PKG: SOT23-6; PN: INA181A1IDBVT; TemperatureRange: [-40;125]ºC; VALOR: INA181; VoltageRange: [2.7;5.5]V
footprint SOT23-6
pins: 1 OUT, 2 GND, 3 IN+, 4 IN-, 5 REF, 6 VS (power)

## IC_AMP_CUR_SENSE_INA212_-40_125C
designator U?
DESC: IC CURRENT SHUNT MONITOR 1%; Geometry.Height: 1.1 mm; MAN: TEXAS INSTRUMENTS; ORIGEM: SFI ED03r1; PKG: SC70(6) (DCK); PN: INA212AIDCKT; TemperatureRange: [-40;125]ºC; VALOR: INA212A; VoltageRange: [2.7;26]V
footprint INA212-DCK-SC70
pins: 1 REF, 2 GND, 3 V+, 4 IN+, 5 IN-, 6 OUT

## IC_DS1682_PULSE_COUNTER_RTC
designator ?
DESC: Total-Elapsed-Time Recorder with Alarm RTC PULSE COUNTER; Geometry.Height: 1.75 mm; MAN: MAXIM IC; ORIGEM: CRC_BRICK_PULSE_COUNTER_ED01R1; PKG: 8 SOIC; PN: DS1682S+; VALOR: DS1682
footprint IC_DS1682_8SOIC
pins: 1 EVENT, 2 N.C.1, 3 /ALARM, 4 GND, 5 SCL, 6 SDA, 7 N.C.2, 8 VCC

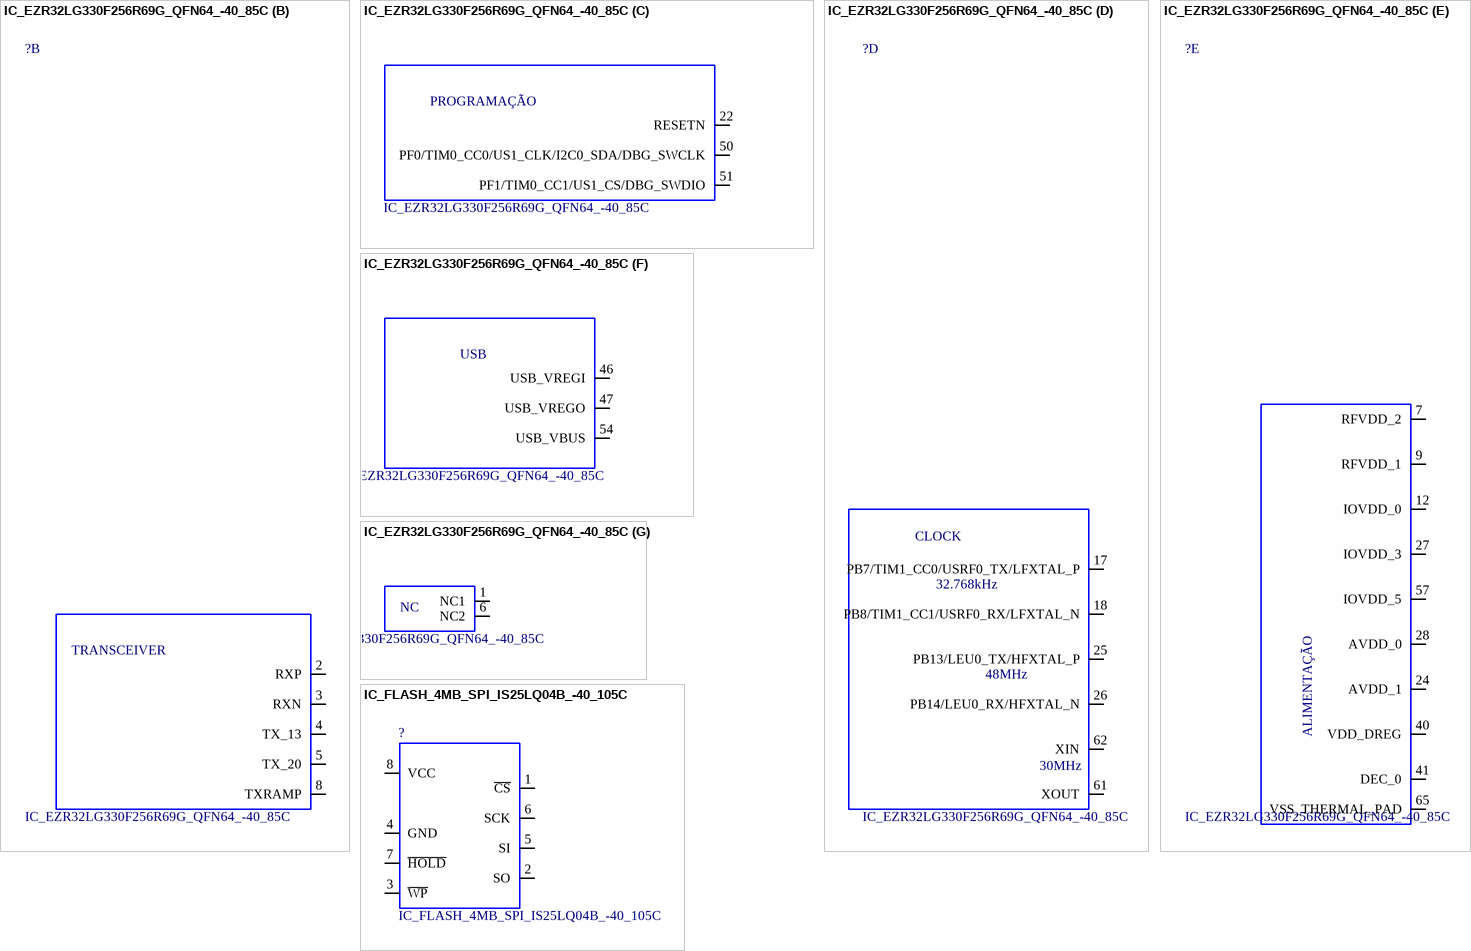
[diagram p9: symbols IC_EZR32LG330F256R69G_QFN64_-40_85C to IC_FLASH_4MB_SPI_IS25LQ04B_-40_105C]

## IC_EZR32LG330F256R69G_QFN64_-40_85C
designator ?
CurrentRange: [20n;143m]A; DESC: MCU EZR32LG; FrequencyRange: [;48]MHz; Geometry.Height: 0.9 mm; MAN: Silicon Labs; ORIGEM: SFI Ed03r1; PKG: QFN64; PN: EZR32LG330F256R63G-B0; TemperatureRange: [-40;85]C; VoltageRange: [1.98;3.8]V; VALOR: EZR32LG330
footprint EZR32LG330F256R69G
part A pins: 10 PA0/TIM0_CC0/LEU0_RX/I2C0_SDA/RF_GPIO0 (io), 11 PA1/TIM0_CC1/I2C0_SCL/RF_GPIO1 (io), 13 PB3/PCNT1_S0IN/US2_TX (io), 14 PB4/PCNT1_S1IN/US2_RX (io), 15 PB5/US2_CLK (io), 16 PB6/US2_CS (io), 19 PA12/TIM2_CC0 (io), 20 PA13/TIM2_CC1 (io), 21 PA14/TIM2_CC2 (io), 23 PB11/TIM1_CC2/LETIM0_OUT0 (io), 29 PD0/ADC0_CH0/OPAMP_OUT2/US1_TX (io), 30 PD1/ADC0_CH1/TIM0_CC0/US1_RX/DBG_SWO (io), 31 PD2/ADC0_CH2/USB_DMPU/US1_CLK/DBG_SWO (io), 32 PD3/ADC0_CH3/OPAMP_N2/US1_CS/ETM_TD1 (io), 33 PD4/ADC0_CH4/OPAMP_P2/LEU0_TX/ETM_TD2 (io), 34 PD5/ADC0_CH5/OPAMP_OUT2/LEU0_RX/ETM_TD3 (io), 35 PD6/I2C0_SDA/ACMP0_O/ETM_TD0/BOOT_RX (io), 36 PD7/I2C0_SCL/CMU_CLK0/ETM_TCLK/BOOT_TX (io), 37 PD8/BU_VIN/CMU_CLK1 (io), 38 PC6/ACMP0_CH6/LEU1_TX/LES_CH6/ETM_TCLK (io), 39 PC7/ACMP0_CH7/LEU1_RX/LES_CH7/ETM_TD0 (io), 42 PE0/TIM3_CC0/PCNT0_S0IN/U0_TX/I2C1_SDA (io), 43 PE1/TIM3_CC1/PCNT0_S1IN/U0_RX/I2C1_SCL (io), 44 PE2/BU_VOUT/TIM3_CC2/U1_TX/ACMP0_O (io), 45 PE3/BU_STAT/U1_RX/ACMP1_O (io), 48 PF10/USB_DM (io), 49 PF11/USB_DP (io), 52 PF2/ACMP1_O/DBG_SWO/GPIO_EM4WU4 (io), 53 PF3/TIM0_CDTI0/PRS_CH0 (io), 55 PF4/TIM0_CDTI1/PRS_CH1 (io), 56 PF5/TIM0_CDTI2/USB_VBUSEN/PRS_CH2 (io), 58 PF6/TIM0_CC0 (io), 59 PF7/TIM0_CC1 (io), 60 PF8/TIM0_CC2 (io), 63 GPIO2 (io), 64 GPIO3 (io)
part B pins: 2 RXP, 3 RXN, 4 TX_13, 5 TX_20, 8 TXRAMP
part C pins: 22 RESETN (io), 50 PF0/TIM0_CC0/US1_CLK/I2C0_SDA/DBG_SWCLK (io), 51 PF1/TIM0_CC1/US1_CS/DBG_SWDIO (io)
part D pins: 17 PB7/TIM1_CC0/USRF0_TX/LFXTAL_P (io), 18 PB8/TIM1_CC1/USRF0_RX/LFXTAL_N (io), 25 PB13/LEU0_TX/HFXTAL_P (io), 26 PB14/LEU0_RX/HFXTAL_N (io), 61 XOUT, 62 XIN
part E pins: 7 RFVDD_2 (power), 9 RFVDD_1 (power), 12 IOVDD_0 (power), 24 AVDD_1 (power), 27 IOVDD_3 (power), 28 AVDD_0 (power), 40 VDD_DREG (power), 41 DEC_0, 57 IOVDD_5 (power), 65 VSS_THERMAL_PAD
part F pins: 46 USB_VREGI, 47 USB_VREGO, 54 USB_VBUS
part G pins: 1 NC1, 6 NC2
part A text: GPIOs
part B text: TRANSCEIVER
part C text: PROGRAMAÇÃO
part D text: CLOCK; 32.768kHz; 48MHz; 30MHz
part E text: ALIMENTAÇÃO
part F text: USB
part G text: NC

## IC_FLASH_4MB_SPI_IS25LQ04B_-40_105C
designator ?
DESC: IC FLASH 4MBIT 104MHZ 8SOIC 0.150"; Geometry.Height: 1.75mm; MAN: ISSI; ORIGEM: SFI ED03r1; PKG: 8-SOIC 0.150"; TemperatureRange: [-40,105]C; PN: IS25LQ040B-JNLE; VoltageRange: [2.3,3.6]V; VALOR: 4Mb; CurrentRange: [8u,30m]A; FrequencyRange: up to 104 MHz
footprint IS25LQ040B-JNLE
pins: 1 ~{CS}, 2 SO (io), 3 ~{WP} (io), 4 GND, 5 SI (io), 6 SCK, 7 ~{HOLD} (io), 8 VCC (power)

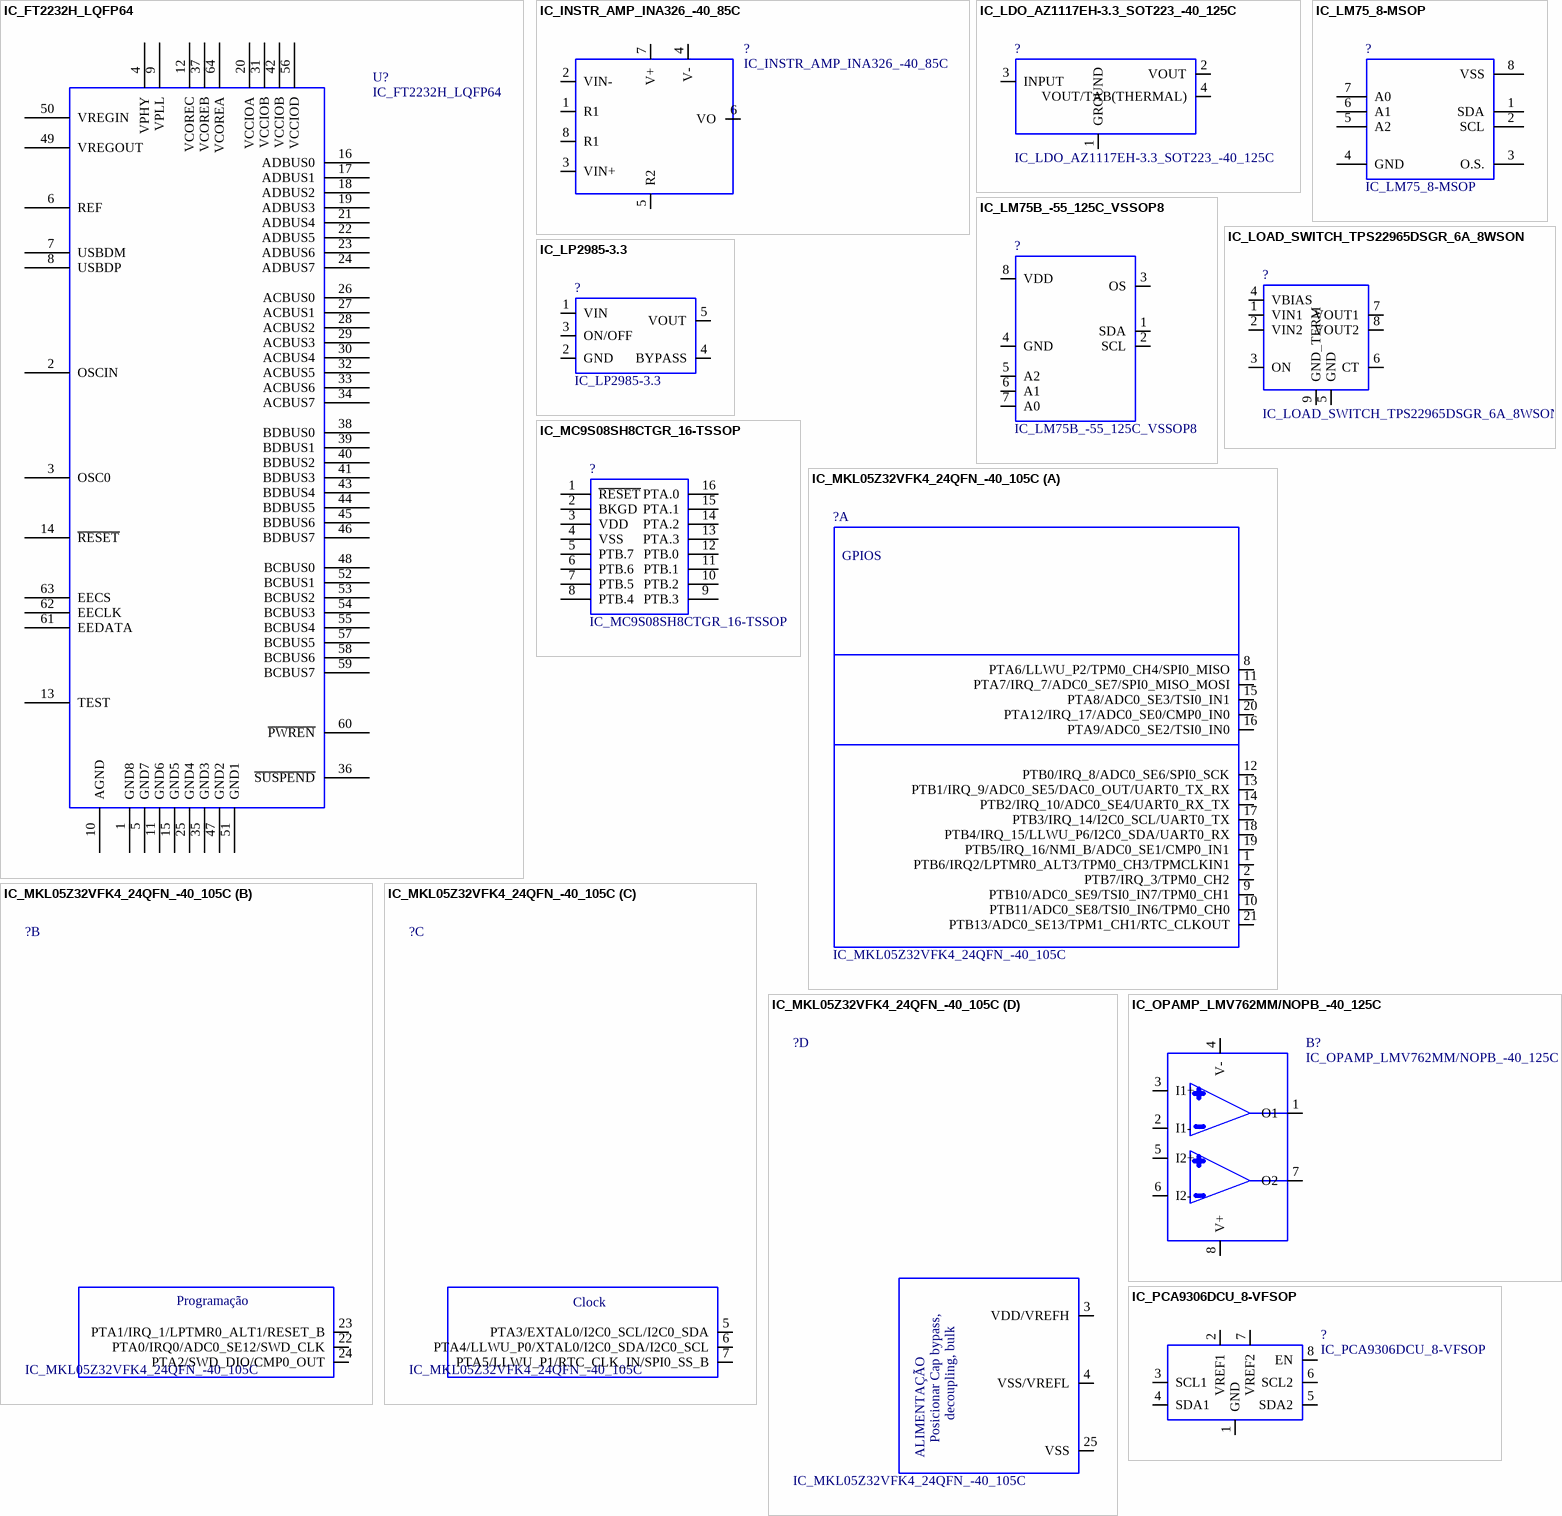
[diagram p10: symbols IC_FT2232H_LQFP64 to IC_PCA9306DCU_8-VFSOP]